# Altium integrated library altera.IntLib: 68 symbols (part 3 of 6)
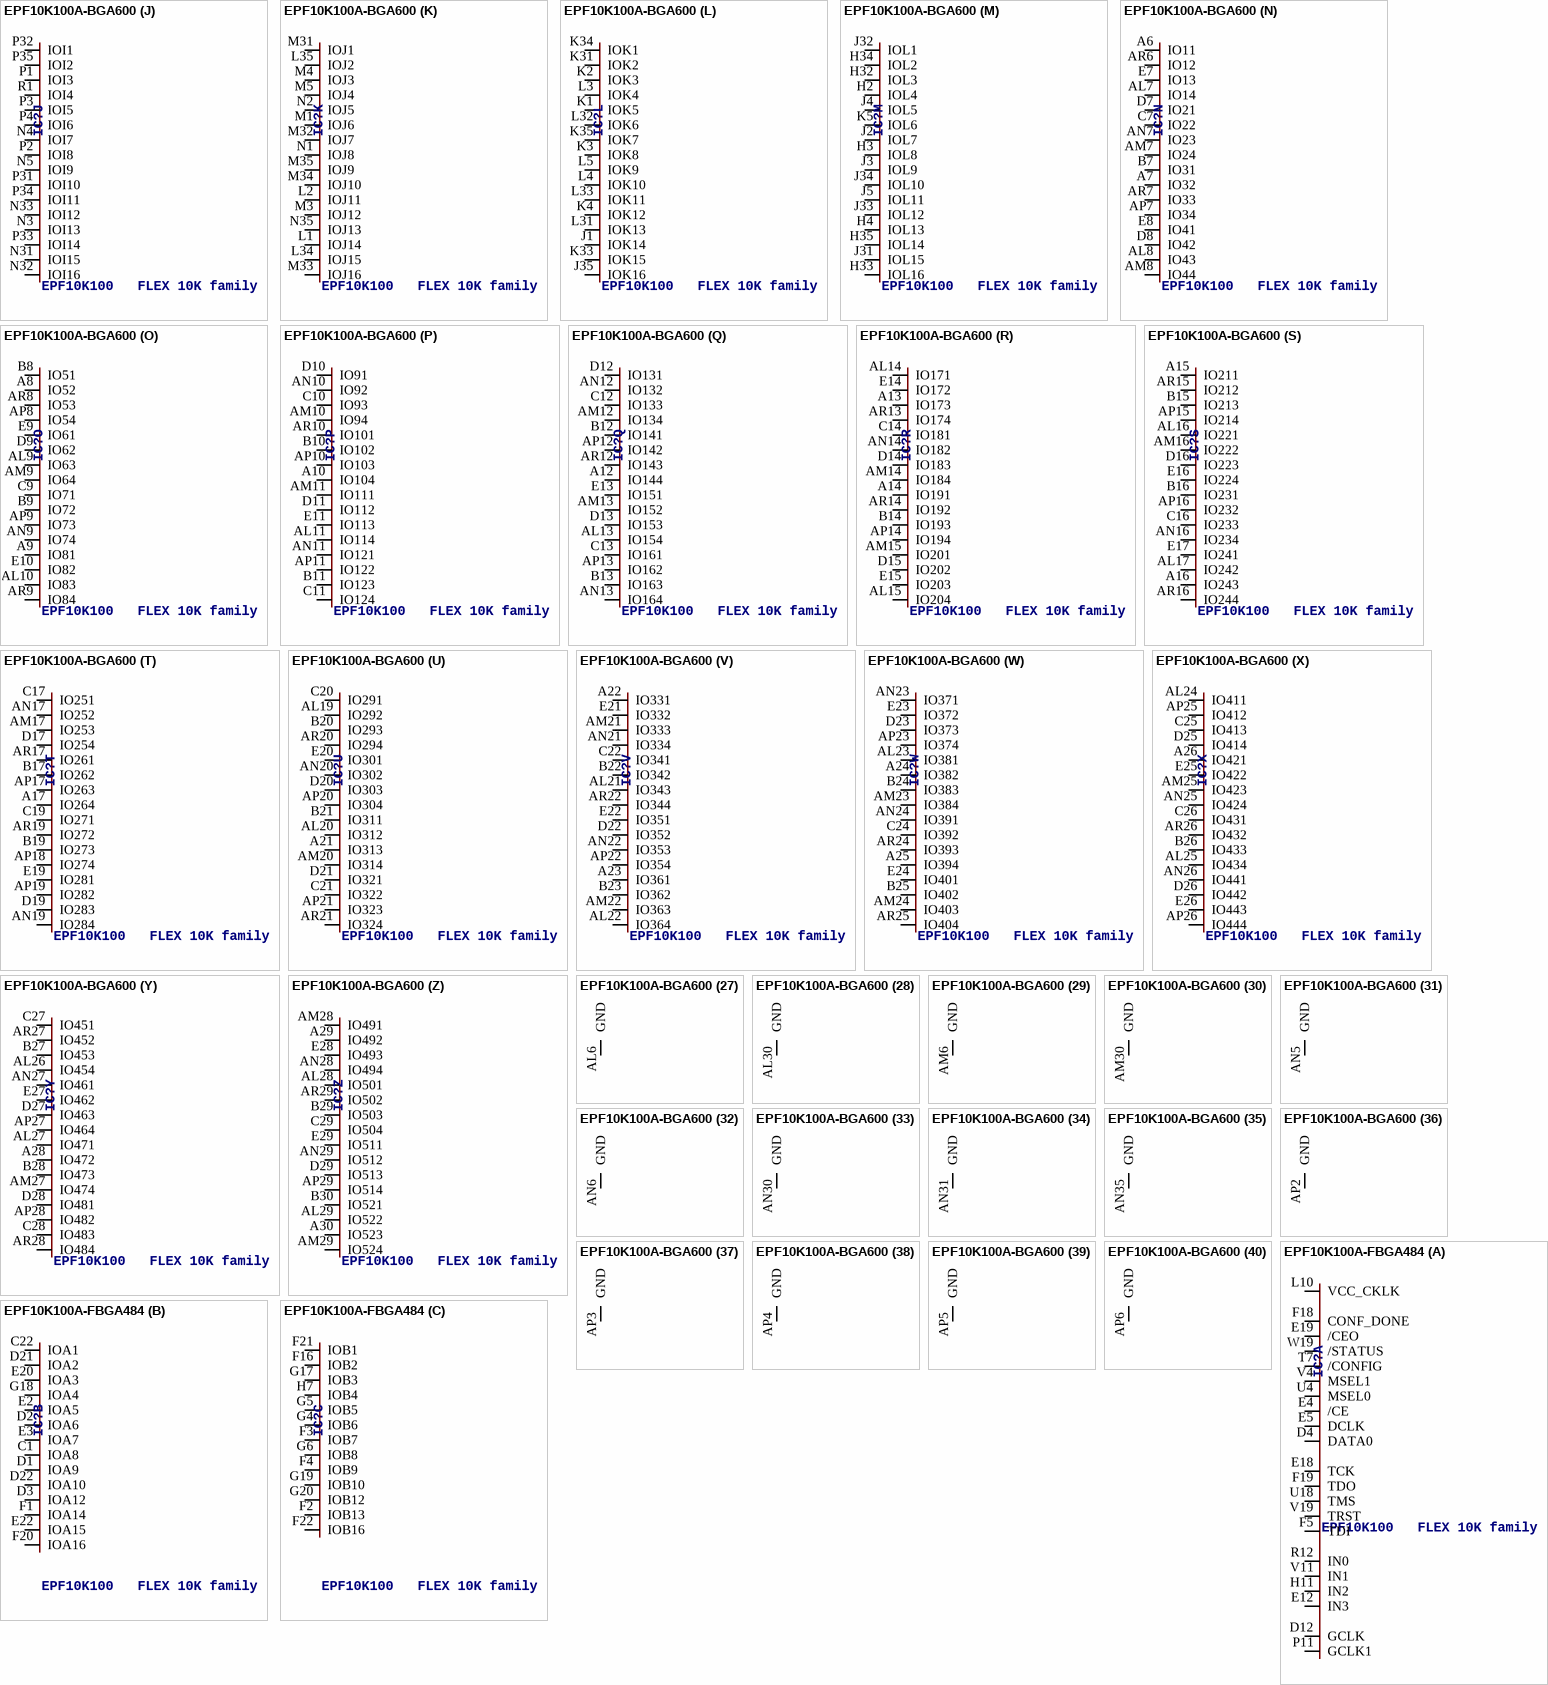
[diagram p59: symbols EPF10K100A-BGA600 to EPF10K100A-FBGA484]

## EPF10K100A-BGA600
designator IC?, comment EPF10K100   FLEX 10K family
MPN: EPF10K100ABC600-1; OC_FARNELL: unknown; OC_NEWARK: 51R8783
footprint BGA600
part A pins: AL18 GCLK, AL31 TCK, AM4 DATA0, AM18 IN3, AM32 CONF_DONE, AN1 TDI, AN2 /CE, AN18 IN2, AN34 TDO, AP1 DCLK, AP24 VCC_CKLK, AP35 /CEO, C1 MSEL1, C18 IN1, C34 TRST, C35 TMS, D4 /CONFIG, D18 IN0, D32 /STATUS, E18 GCLK1, F5 MSEL0
part B pins: AG2 IOA14, AG3 IOA13, AG4 IOA5, AH1 IOA9, AH2 IOA6, AH3 IOA8, AH4 IOA7, AJ1 IOA12, AJ31 IOA10, AK32 IOA11, AL32 IOA1, AL33 IOA15, AL34 IOA16, AM33 IOA2, AM34 IOA4, AM35 IOA3
part C pins: AE3 IOB4, AE5 IOB15, AF1 IOB5, AF2 IOB13, AF3 IOB6, AF4 IOB9, AF5 IOB7, AG1 IOB8, AH31 IOB2, AJ32 IOB11, AJ33 IOB12, AJ34 IOB14, AJ35 IOB3, AK33 IOB10, AK34 IOB16, AL35 IOB1
part D pins: AC5 IOC3, AD1 IOC10, AD2 IOC8, AD3 IOC4, AD4 IOC7, AD5 IOC12, AE1 IOC5, AE2 IOC6, AG31 IOC9, AG32 IOC13, AG33 IOC2, AG34 IOC15, AH32 IOC11, AH33 IOC1, AH34 IOC14, AH35 IOC16
part E pins: AB1 IOD15, AB2 IOD5, AB3 IOD13, AB4 IOD6, AB35 IOD16, AC1 IOD10, AC2 IOD12, AC3 IOD8, AC4 IOD7, AE31 IOD3, AE32 IOD4, AF31 IOD9, AF33 IOD11, AF34 IOD2, AF35 IOD14, AG35 IOD1
part F pins: AA1 IOE4, AA2 IOE9, AA3 IOE8, AA4 IOE7, AA5 IOE5, AA31 IOE11, AA32 IOE10, AA34 IOE1, AA35 IOE14, Y3 IOE13, Y4 IOE3, Y5 IOE12, Y31 IOE2, Y32 IOE16, Y33 IOE15, Y34 IOE6
part G pins: V4 IOF8, V5 IOF3, V31 IOF2, V33 IOF12, W1 IOF16, W2 IOF4, W3 IOF15, W4 IOF5, W5 IOF13, W31 IOF6, W32 IOF1, W33 IOF9, W34 IOF10, W35 IOF11, Y1 IOF14, Y35 IOF7
part H pins: T5 IOG13, T31 IOG16, U1 IOG8, U2 IOG9, U4 IOG3, U5 IOG7, U31 IOG12, U32 IOG1, U33 IOG14, U34 IOG2, U35 IOG15, V1 IOG6, V2 IOG5, V3 IOG4, V34 IOG10, V35 IOG11
part I pins: R2 IOH14, R3 IOH10, R4 IOH11, R5 IOH4, R31 IOH13, R32 IOH2, R33 IOH16, R34 IOH15, R35 IOH3, T1 IOH7, T2 IOH8, T3 IOH6, T4 IOH5, T32 IOH12, T33 IOH9, T34 IOH1
part J pins: N3 IOI13, N4 IOI7, N5 IOI9, N31 IOI15, N32 IOI16, N33 IOI12, P1 IOI3, P2 IOI8, P3 IOI5, P4 IOI6, P31 IOI10, P32 IOI1, P33 IOI14, P34 IOI11, P35 IOI2, R1 IOI4
part K pins: L1 IOJ14, L2 IOJ11, L34 IOJ15, L35 IOJ2, M1 IOJ6, M3 IOJ12, M4 IOJ3, M5 IOJ4, M31 IOJ1, M32 IOJ7, M33 IOJ16, M34 IOJ10, M35 IOJ9, N1 IOJ8, N2 IOJ5, N35 IOJ13
part L pins: J1 IOK14, J35 IOK16, K1 IOK5, K2 IOK3, K3 IOK8, K4 IOK12, K31 IOK2, K33 IOK15, K34 IOK1, K35 IOK7, L3 IOK4, L4 IOK10, L5 IOK9, L31 IOK13, L32 IOK6, L33 IOK11
part M pins: H2 IOL4, H3 IOL8, H4 IOL13, H32 IOL3, H33 IOL16, H34 IOL2, H35 IOL14, J2 IOL7, J3 IOL9, J4 IOL5, J5 IOL11, J31 IOL15, J32 IOL1, J33 IOL12, J34 IOL10, K5 IOL6
part N pins: A6 IO11, A7 IO32, AL7 IO14, AL8 IO43, AM7 IO24, AM8 IO44, AN7 IO23, AP7 IO34, AR6 IO12, AR7 IO33, B7 IO31, C7 IO22, D7 IO21, D8 IO42, E7 IO13, E8 IO41
part O pins: A8 IO52, A9 IO81, AL9 IO63, AL10 IO83, AM9 IO64, AN9 IO74, AP8 IO54, AP9 IO73, AR8 IO53, AR9 IO84, B8 IO51, B9 IO72, C9 IO71, D9 IO62, E9 IO61, E10 IO82
part P pins: A10 IO104, AL11 IO114, AM10 IO94, AM11 IO111, AN10 IO92, AN11 IO121, AP10 IO103, AP11 IO122, AR10 IO101, B10 IO102, B11 IO123, C10 IO93, C11 IO124, D10 IO91, D11 IO112, E11 IO113
part Q pins: A12 IO144, AL13 IO154, AM12 IO134, AM13 IO152, AN12 IO132, AN13 IO164, AP12 IO142, AP13 IO162, AR12 IO143, B12 IO141, B13 IO163, C12 IO133, C13 IO161, D12 IO131, D13 IO153, E13 IO151
part R pins: A13 IO173, A14 IO191, AL14 IO171, AL15 IO204, AM14 IO184, AM15 IO201, AN14 IO182, AP14 IO194, AR13 IO174, AR14 IO192, B14 IO193, C14 IO181, D14 IO183, D15 IO202, E14 IO172, E15 IO203
part S pins: A15 IO211, A16 IO243, AL16 IO221, AL17 IO242, AM16 IO222, AN16 IO234, AP15 IO214, AP16 IO232, AR15 IO212, AR16 IO244, B15 IO213, B16 IO231, C16 IO233, D16 IO223, E16 IO224, E17 IO241
part T pins: A17 IO264, AM17 IO253, AN17 IO252, AN19 IO284, AP17 IO263, AP18 IO274, AP19 IO282, AR17 IO261, AR19 IO272, B17 IO262, B19 IO273, C17 IO251, C19 IO271, D17 IO254, D19 IO283, E19 IO281
part U pins: A21 IO313, AL19 IO292, AL20 IO312, AM20 IO314, AN20 IO302, AP20 IO304, AP21 IO323, AR20 IO294, AR21 IO324, B20 IO293, B21 IO311, C20 IO291, C21 IO322, D20 IO303, D21 IO321, E20 IO301
part V pins: A22 IO331, A23 IO361, AL21 IO343, AL22 IO364, AM21 IO333, AM22 IO363, AN21 IO334, AN22 IO353, AP22 IO354, AR22 IO344, B22 IO342, B23 IO362, C22 IO341, D22 IO352, E21 IO332, E22 IO351
part W pins: A24 IO382, A25 IO394, AL23 IO381, AM23 IO384, AM24 IO403, AN23 IO371, AN24 IO391, AP23 IO374, AR24 IO393, AR25 IO404, B24 IO383, B25 IO402, C24 IO392, D23 IO373, E23 IO372, E24 IO401
part X pins: A26 IO421, AL24 IO411, AL25 IO434, AM25 IO423, AN25 IO424, AN26 IO441, AP25 IO412, AP26 IO444, AR26 IO432, B26 IO433, C25 IO413, C26 IO431, D25 IO414, D26 IO442, E25 IO422, E26 IO443
part Y pins: A28 IO472, AL26 IO454, AL27 IO471, AM27 IO474, AN27 IO461, AP27 IO464, AP28 IO482, AR27 IO452, AR28 IO484, B27 IO453, B28 IO473, C27 IO451, C28 IO483, D27 IO463, D28 IO481, E27 IO462
part Z pins: A29 IO492, A30 IO523, AL28 IO501, AL29 IO522, AM28 IO491, AM29 IO524, AN28 IO494, AN29 IO512, AP29 IO514, AR29 IO502, B29 IO503, B30 IO521, C29 IO504, D29 IO513, E28 IO493, E29 IO511
part 27 pins: AL6 GND (power)
part 28 pins: AL30 GND (power)
part 29 pins: AM6 GND (power)
part 30 pins: AM30 GND (power)
part 31 pins: AN5 GND (power)
part 32 pins: AN6 GND (power)
part 33 pins: AN30 GND (power)
part 34 pins: AN31 GND (power)
part 35 pins: AN35 GND (power)
part 36 pins: AP2 GND (power)
part 37 pins: AP3 GND (power)
part 38 pins: AP4 GND (power)
part 39 pins: AP5 GND (power)
part 40 pins: AP6 GND (power)
part 41 pins: AP30 GND (power)
part 42 pins: AP31 GND (power)
part 43 pins: AP32 GND (power)
part 44 pins: AP33 GND (power)
part 45 pins: AR1 GND (power)
part 46 pins: AR2 GND (power)
part 47 pins: AR3 GND (power)
part 48 pins: AR4 GND (power)
part 49 pins: AR5 GND (power)
part 50 pins: AR30 GND (power)
part 51 pins: AR31 GND (power)
part 52 pins: AR32 GND (power)
part 53 pins: AR33 GND (power)
part 54 pins: AR34 GND (power)
part 55 pins: AR35 GND (power)
part 56 pins: A1 GND (power)
part 57 pins: A2 GND (power)
part 58 pins: A3 GND (power)
part 59 pins: A4 GND (power)
part 60 pins: A5 GND (power)
part 61 pins: A18 GND (power)
part 62 pins: A31 GND (power)
part 63 pins: A32 GND (power)
part 64 pins: A33 GND (power)
part 65 pins: A34 GND (power)
part 66 pins: A35 GND (power)
part 67 pins: B2 GND (power)
part 68 pins: B3 GND (power)
part 69 pins: B4 GND (power)
part 70 pins: B5 GND (power)
part 71 pins: B6 GND (power)
part 72 pins: B31 GND (power)
part 73 pins: B32 GND (power)
part 74 pins: B33 GND (power)
part 75 pins: B34 GND (power)
part 76 pins: B35 GND (power)
part 77 pins: C5 GND (power)
part 78 pins: C6 GND (power)
part 79 pins: C30 GND (power)
part 80 pins: C31 GND (power)
part 81 pins: D6 GND (power)
part 82 pins: D30 GND (power)
part 83 pins: E6 GND (power)
part 84 pins: E30 GND (power)
part 85 pins: AB31 NC
part 86 pins: AB32 NC
part 87 pins: AB33 NC
part 88 pins: AB34 NC
part 89 pins: AC31 NC
part 90 pins: AC32 NC
part 91 pins: AC33 NC
part 92 pins: AC34 NC
part 93 pins: AC35 NC
part 94 pins: AD31 NC
part 95 pins: AD32 NC
part 96 pins: AD33 NC
part 97 pins: AD34 NC
part 98 pins: AE33 NC
part 99 pins: AE34 NC
part 100 pins: AE35 NC
part 101 pins: AH5 NC
part 102 pins: AJ2 NC
part 103 pins: AJ3 NC
part 104 pins: AJ4 NC
part 105 pins: AJ5 NC
part 106 pins: AK1 NC
part 107 pins: AK2 NC
part 108 pins: AK3 NC
part 109 pins: AK4 NC
part 110 pins: AK5 NC
part 111 pins: AL1 NC
part 112 pins: AL2 NC
part 113 pins: AL4 NC
part 114 pins: AM1 NC
part 115 pins: AM2 NC
part 116 pins: AM3 NC
part 117 pins: D1 NC
part 118 pins: D2 NC
part 119 pins: D3 NC
part 120 pins: D33 NC
part 121 pins: D34 NC
part 122 pins: D35 NC
part 123 pins: E1 NC
part 124 pins: E3 NC
part 125 pins: E4 NC
part 126 pins: E32 NC
part 127 pins: E33 NC
part 128 pins: E34 NC
part 129 pins: E35 NC
part 130 pins: F1 NC
part 131 pins: F2 NC
part 132 pins: F3 NC
part 133 pins: F4 NC
part 134 pins: F32 NC
part 135 pins: F33 NC
part 136 pins: F34 NC
part 137 pins: G1 NC
part 138 pins: G2 NC
part 139 pins: G3 NC
part 140 pins: G4 NC
part 141 pins: G5 NC
part 142 pins: G31 NC
part 143 pins: G32 NC
part 144 pins: G33 NC
part 145 pins: G34 NC
part 146 pins: G35 NC
part 147 pins: H5 NC
part 148 pins: H31 NC
part 149 pins: AA33 VCC (power)
part 150 pins: AB5 VCC (power)
part 151 pins: AD35 VCC (power)
part 152 pins: AE4 VCC (power)
part 153 pins: AF32 VCC (power)
part 154 pins: AG5 VCC (power)
part 155 pins: AK31 VCC (power)
part 156 pins: AK35 VCC (power)
part 157 pins: AL3 VCC (power)
part 158 pins: AR11 VCC (power)
part 159 pins: AR18 VCC (power)
part 160 pins: A11 VCC (power)
part 161 pins: A19 VCC (power)
part 162 pins: B1 VCC (power)
part 163 pins: B18 VCC (power)
part 164 pins: D24 VCC (power)
part 165 pins: E2 VCC (power)
part 166 pins: F31 VCC (power)
part 167 pins: F35 VCC (power)
part 168 pins: H1 VCC (power)
part 169 pins: K32 VCC (power)
part 170 pins: M2 VCC (power)
part 171 pins: N34 VCC (power)
part 172 pins: P5 VCC (power)
part 173 pins: T35 VCC (power)
part 174 pins: U3 VCC (power)
part 175 pins: V32 VCC (power)
part 176 pins: Y2 VCC (power)
part 177 pins: AL5 VCCIO (power)
part 178 pins: AL12 VCCIO (power)
part 179 pins: AM5 VCCIO (power)
part 180 pins: AM19 VCCIO (power)
part 181 pins: AM26 VCCIO (power)
part 182 pins: AM31 VCCIO (power)
part 183 pins: AN3 VCCIO (power)
part 184 pins: AN4 VCCIO (power)
part 185 pins: AN8 VCCIO (power)
part 186 pins: AN15 VCCIO (power)
part 187 pins: AN32 VCCIO (power)
part 188 pins: AN33 VCCIO (power)
part 189 pins: AP34 VCCIO (power)
part 190 pins: AR23 VCCIO (power)
part 191 pins: A20 VCCIO (power)
part 192 pins: A27 VCCIO (power)
part 193 pins: C2 VCCIO (power)
part 194 pins: C3 VCCIO (power)
part 195 pins: C4 VCCIO (power)
part 196 pins: C8 VCCIO (power)
part 197 pins: C15 VCCIO (power)
part 198 pins: C23 VCCIO (power)
part 199 pins: C32 VCCIO (power)
part 200 pins: C33 VCCIO (power)
part 201 pins: D5 VCCIO (power)
part 202 pins: D31 VCCIO (power)
part 203 pins: E5 VCCIO (power)
part 204 pins: E12 VCCIO (power)
part 205 pins: E31 VCCIO (power)

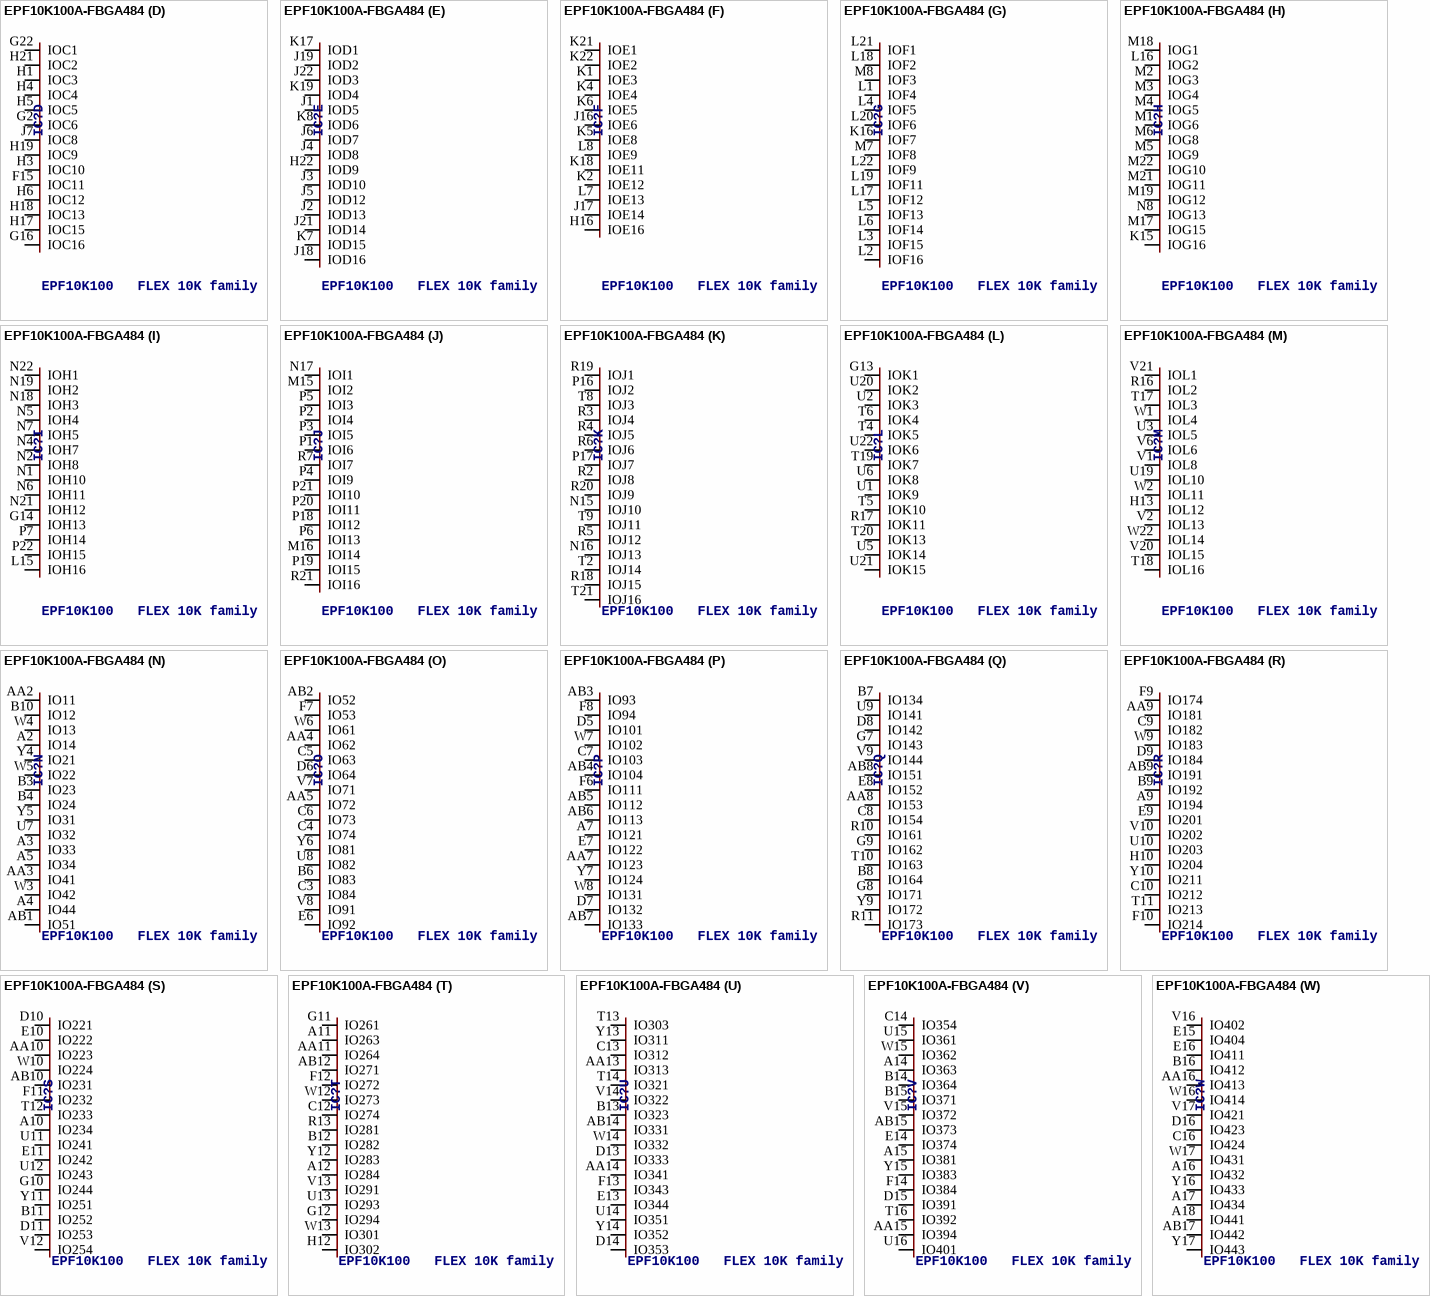
[diagram p20: symbol EPF10K100A-FBGA484]

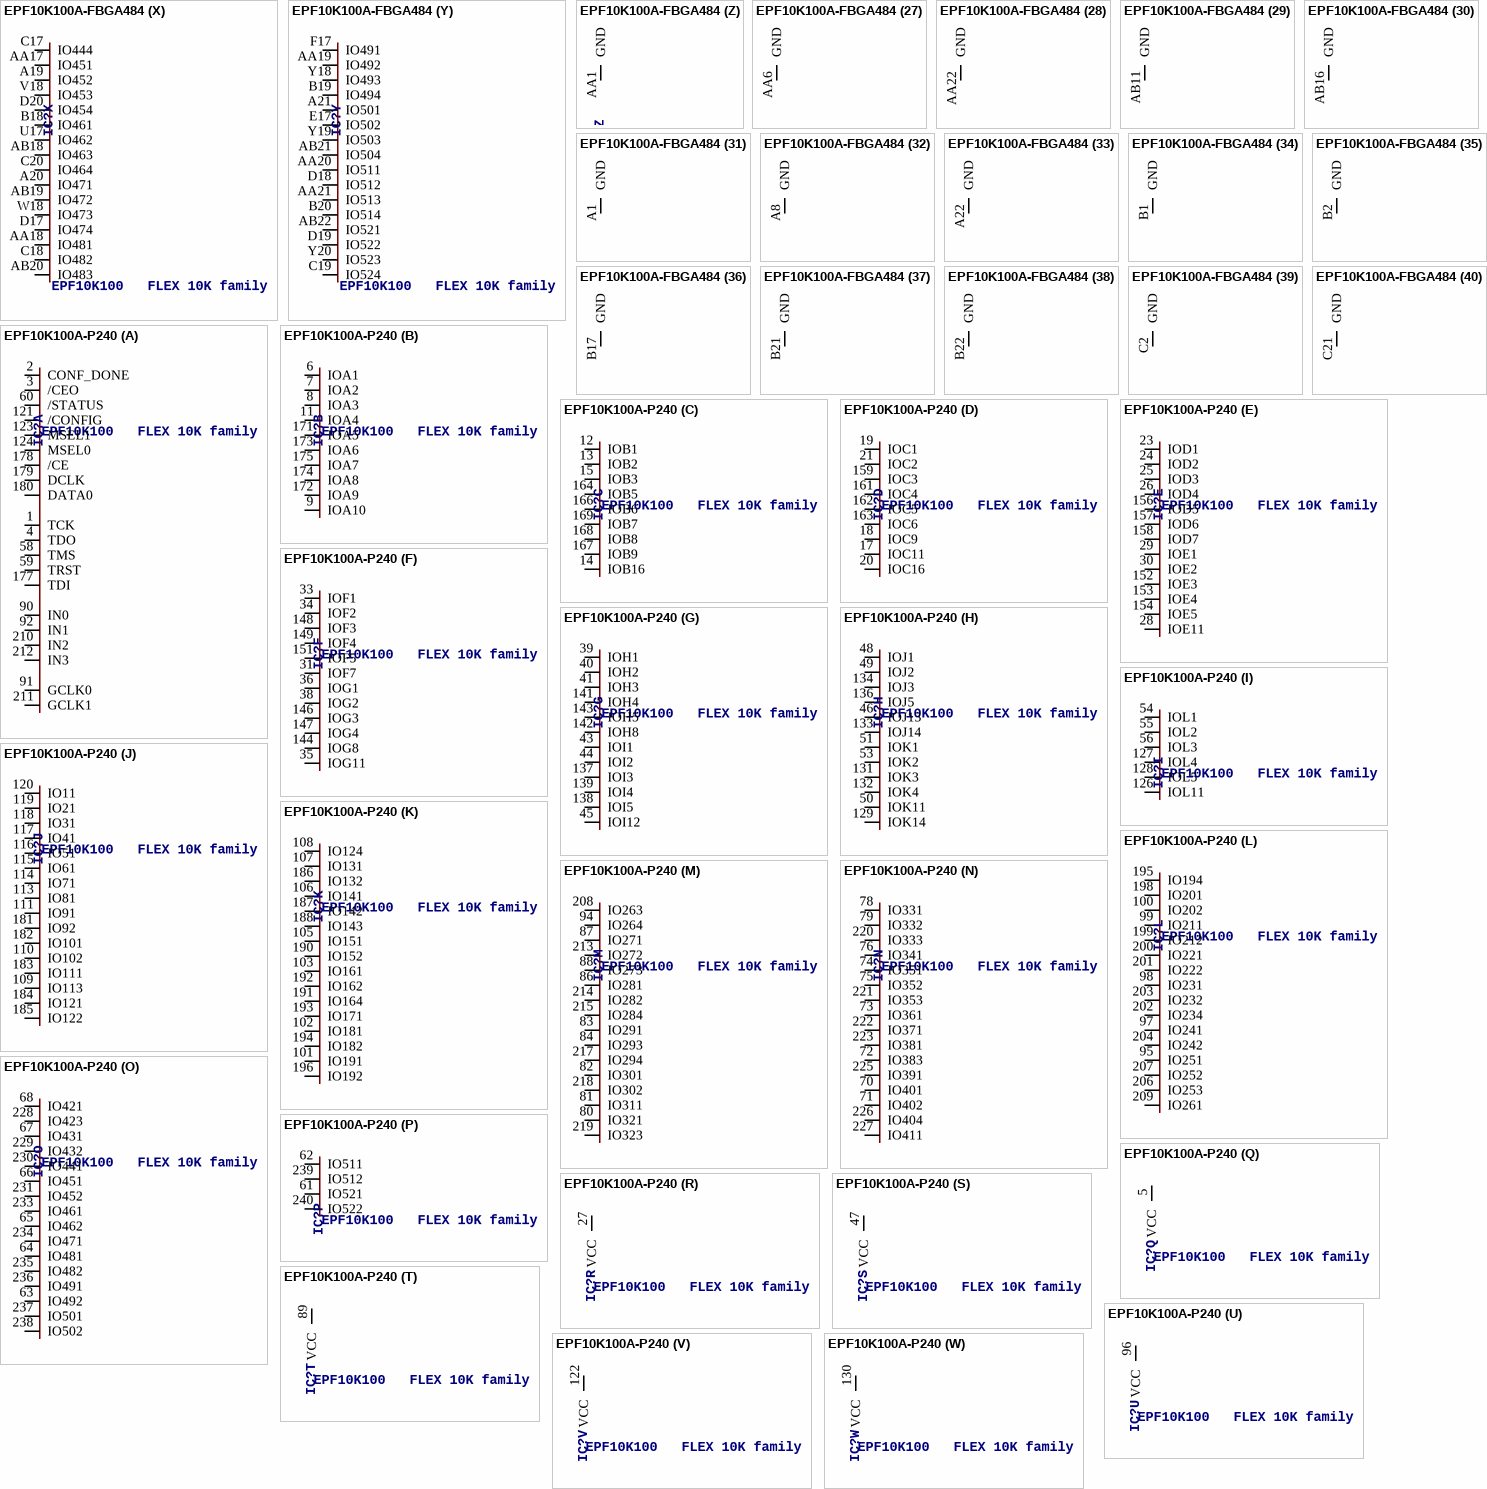
[diagram p21: symbols EPF10K100A-FBGA484 to EPF10K100A-P240]

## EPF10K100A-FBGA484
designator IC?, comment EPF10K100   FLEX 10K family
MPN: EPF10K100AFC484-1; OC_FARNELL: unknown; OC_NEWARK: 51R8791
footprint FBGA484
part A pins: D4 DATA0, D12 GCLK, E4 /CE, E5 DCLK, E12 IN3, E18 TCK, E19 /CEO, F5 TDI, F18 CONF_DONE, F19 TDO, H11 IN2, L10 VCC_CKLK, P11 GCLK1, R12 IN0, T7 /CONFIG, U4 MSEL0, U18 TMS, V4 MSEL1, V11 IN1, V19 TRST, W19 /STATUS
part B pins: C1 IOA8, C22 IOA1, D1 IOA9, D2 IOA6, D3 IOA12, D21 IOA2, D22 IOA10, E2 IOA5, E3 IOA7, E20 IOA3, E22 IOA15, F1 IOA14, F20 IOA16, G18 IOA4
part C pins: F2 IOB13, F3 IOB7, F4 IOB9, F16 IOB2, F21 IOB1, F22 IOB16, G4 IOB6, G5 IOB5, G6 IOB8, G17 IOB3, G19 IOB10, G20 IOB12, H7 IOB4
part D pins: F15 IOC11, G2 IOC6, G16 IOC16, G22 IOC1, H1 IOC3, H3 IOC10, H4 IOC4, H5 IOC5, H6 IOC12, H17 IOC15, H18 IOC13, H19 IOC9, H21 IOC2, J7 IOC8
part E pins: H22 IOD9, J1 IOD5, J2 IOD13, J3 IOD10, J4 IOD8, J5 IOD12, J6 IOD7, J18 IOD16, J19 IOD2, J21 IOD14, J22 IOD3, K7 IOD15, K8 IOD6, K17 IOD1, K19 IOD4
part F pins: H16 IOE16, J16 IOE6, J17 IOE14, K1 IOE3, K2 IOE12, K4 IOE4, K5 IOE8, K6 IOE5, K18 IOE11, K21 IOE1, K22 IOE2, L7 IOE13, L8 IOE9
part G pins: K16 IOF7, L1 IOF4, L2 IOF16, L3 IOF15, L4 IOF5, L5 IOF13, L6 IOF14, L17 IOF12, L18 IOF2, L19 IOF11, L20 IOF6, L21 IOF1, L22 IOF9, M7 IOF8, M8 IOF3
part H pins: K15 IOG16, L16 IOG2, M1 IOG6, M2 IOG3, M3 IOG4, M4 IOG5, M5 IOG9, M6 IOG8, M17 IOG15, M18 IOG1, M19 IOG12, M21 IOG11, M22 IOG10, N8 IOG13
part I pins: G14 IOH13, L15 IOH16, N1 IOH10, N2 IOH8, N4 IOH7, N5 IOH4, N6 IOH11, N7 IOH5, N18 IOH3, N19 IOH2, N21 IOH12, N22 IOH1, P7 IOH14, P22 IOH15
part J pins: M15 IOI2, M16 IOI14, N17 IOI1, P1 IOI6, P2 IOI4, P3 IOI5, P4 IOI9, P5 IOI3, P6 IOI13, P18 IOI12, P19 IOI15, P20 IOI11, P21 IOI10, R7 IOI7, R21 IOI16
part K pins: N15 IOJ10, N16 IOJ13, P16 IOJ2, P17 IOJ7, R2 IOJ8, R3 IOJ4, R4 IOJ5, R5 IOJ12, R6 IOJ6, R18 IOJ15, R19 IOJ1, R20 IOJ9, T2 IOJ14, T8 IOJ3, T9 IOJ11, T21 IOJ16
part L pins: G13 IOK1, R17 IOK11, T4 IOK5, T5 IOK10, T6 IOK4, T19 IOK7, T20 IOK13, U1 IOK9, U2 IOK3, U5 IOK14, U6 IOK8, U20 IOK2, U21 IOK15, U22 IOK6
part M pins: H13 IOL12, R16 IOL2, T17 IOL3, T18 IOL16, U3 IOL5, U19 IOL10, V1 IOL8, V2 IOL13, V6 IOL6, V20 IOL15, V21 IOL1, W1 IOL4, W2 IOL11, W22 IOL14
part N pins: A2 IO14, A3 IO33, A4 IO44, A5 IO34, AA2 IO11, AA3 IO41, AB1 IO51, B3 IO23, B4 IO24, B10 IO12, U7 IO32, W3 IO42, W4 IO13, W5 IO22, Y4 IO21, Y5 IO31
part O pins: AA4 IO62, AA5 IO72, AB2 IO52, B6 IO83, C3 IO84, C4 IO74, C5 IO63, C6 IO73, D6 IO64, E6 IO92, F7 IO53, U8 IO82, V7 IO71, V8 IO91, W6 IO61, Y6 IO81
part P pins: A7 IO121, AA7 IO123, AB3 IO93, AB4 IO104, AB5 IO112, AB6 IO113, AB7 IO133, C7 IO103, D5 IO101, D7 IO132, E7 IO122, F6 IO111, F8 IO94, W7 IO102, W8 IO131, Y7 IO124
part Q pins: AA8 IO153, AB8 IO151, B7 IO134, B8 IO164, C8 IO154, D8 IO142, E8 IO152, G7 IO143, G8 IO171, G9 IO162, R10 IO161, R11 IO173, T10 IO163, U9 IO141, V9 IO144, Y9 IO172
part R pins: A9 IO194, AA9 IO181, AB9 IO191, B9 IO192, C9 IO182, C10 IO212, D9 IO184, E9 IO201, F9 IO174, F10 IO214, H10 IO204, T11 IO213, U10 IO203, V10 IO202, W9 IO183, Y10 IO211
part S pins: A10 IO234, AA10 IO223, AB10 IO231, B11 IO252, D10 IO221, D11 IO253, E10 IO222, E11 IO242, F11 IO232, G10 IO244, T12 IO233, U11 IO241, U12 IO243, V12 IO254, W10 IO224, Y11 IO251
part T pins: A11 IO263, A12 IO284, AA11 IO264, AB12 IO271, B12 IO282, C12 IO274, F12 IO272, G11 IO261, G12 IO294, H12 IO302, R13 IO281, U13 IO293, V13 IO291, W12 IO273, W13 IO301, Y12 IO283
part U pins: AA13 IO313, AA14 IO341, AB14 IO331, B13 IO323, C13 IO312, D13 IO333, D14 IO353, E13 IO344, F13 IO343, T13 IO303, T14 IO321, U14 IO351, V14 IO322, W14 IO332, Y13 IO311, Y14 IO352
part V pins: A14 IO363, A15 IO381, AA15 IO394, AB15 IO373, B14 IO364, B15 IO371, C14 IO354, D15 IO391, E14 IO374, F14 IO384, T16 IO392, U15 IO361, U16 IO401, V15 IO372, W15 IO362, Y15 IO383
part W pins: A16 IO432, A17 IO434, A18 IO441, AA16 IO413, AB17 IO442, B16 IO412, C16 IO424, D16 IO423, E15 IO404, E16 IO411, V16 IO402, V17 IO421, W16 IO414, W17 IO431, Y16 IO433, Y17 IO443
part X pins: A19 IO452, A20 IO471, AA17 IO451, AA18 IO481, AB18 IO463, AB19 IO472, AB20 IO483, B18 IO461, C17 IO444, C18 IO482, C20 IO464, D17 IO474, D20 IO454, U17 IO462, V18 IO453, W18 IO473
part Y pins: A21 IO501, AA19 IO492, AA20 IO511, AA21 IO513, AB21 IO504, AB22 IO521, B19 IO494, B20 IO514, C19 IO524, D18 IO512, D19 IO522, E17 IO502, F17 IO491, Y18 IO493, Y19 IO503, Y20 IO523
part Z pins: AA1 GND (power)
part 27 pins: AA6 GND (power)
part 28 pins: AA22 GND (power)
part 29 pins: AB11 GND (power)
part 30 pins: AB16 GND (power)
part 31 pins: A1 GND (power)
part 32 pins: A8 GND (power)
part 33 pins: A22 GND (power)
part 34 pins: B1 GND (power)
part 35 pins: B2 GND (power)
part 36 pins: B17 GND (power)
part 37 pins: B21 GND (power)
part 38 pins: B22 GND (power)
part 39 pins: C2 GND (power)
part 40 pins: C21 GND (power)
part 41 pins: E21 GND (power)
part 42 pins: G3 GND (power)
part 43 pins: G21 GND (power)
part 44 pins: H2 GND (power)
part 45 pins: H8 GND (power)
part 46 pins: H15 GND (power)
part 47 pins: J9 GND (power)
part 48 pins: J14 GND (power)
part 49 pins: J20 GND (power)
part 50 pins: K3 GND (power)
part 51 pins: K10 GND (power)
part 52 pins: K12 GND (power)
part 53 pins: K13 GND (power)
part 54 pins: L11 GND (power)
part 55 pins: L12 GND (power)
part 56 pins: M11 GND (power)
part 57 pins: M12 GND (power)
part 58 pins: M20 GND (power)
part 59 pins: N10 GND (power)
part 60 pins: N13 GND (power)
part 61 pins: P9 GND (power)
part 62 pins: P14 GND (power)
part 63 pins: R8 GND (power)
part 64 pins: R15 GND (power)
part 65 pins: R22 GND (power)
part 66 pins: T1 GND (power)
part 67 pins: V3 GND (power)
part 68 pins: W11 GND (power)
part 69 pins: W20 GND (power)
part 70 pins: Y1 GND (power)
part 71 pins: Y2 GND (power)
part 72 pins: Y3 GND (power)
part 73 pins: Y21 GND (power)
part 74 pins: Y22 GND (power)
part 75 pins: AA12 VCC (power)
part 76 pins: C11 VCC (power)
part 77 pins: C15 VCC (power)
part 78 pins: H14 VCC (power)
part 79 pins: J8 VCC (power)
part 80 pins: J10 VCC (power)
part 81 pins: J12 VCC (power)
part 82 pins: J15 VCC (power)
part 83 pins: L9 VCC (power)
part 84 pins: L13 VCC (power)
part 85 pins: M10 VCC (power)
part 86 pins: M13 VCC (power)
part 87 pins: M14 VCC (power)
part 88 pins: N12 VCC (power)
part 89 pins: P8 VCC (power)
part 90 pins: P10 VCC (power)
part 91 pins: P12 VCC (power)
part 92 pins: P15 VCC (power)
part 93 pins: R14 VCC (power)
part 94 pins: V5 VCC (power)
part 95 pins: W21 VCC (power)
part 96 pins: Y8 VCC (power)
part 97 pins: AB13 VCCIO (power)
part 98 pins: A6 VCCIO (power)
part 99 pins: A13 VCCIO (power)
part 100 pins: B5 VCCIO (power)
part 101 pins: E1 VCCIO (power)
part 102 pins: G1 VCCIO (power)
part 103 pins: G15 VCCIO (power)
part 104 pins: H9 VCCIO (power)
part 105 pins: H20 VCCIO (power)
part 106 pins: J11 VCCIO (power)
part 107 pins: J13 VCCIO (power)
part 108 pins: K9 VCCIO (power)
part 109 pins: K11 VCCIO (power)
part 110 pins: K14 VCCIO (power)
part 111 pins: K20 VCCIO (power)
part 112 pins: L14 VCCIO (power)
part 113 pins: M9 VCCIO (power)
part 114 pins: N3 VCCIO (power)
part 115 pins: N9 VCCIO (power)
part 116 pins: N11 VCCIO (power)
part 117 pins: N14 VCCIO (power)
part 118 pins: N20 VCCIO (power)
part 119 pins: P13 VCCIO (power)
part 120 pins: R1 VCCIO (power)
part 121 pins: R9 VCCIO (power)
part 122 pins: T3 VCCIO (power)
part 123 pins: T15 VCCIO (power)
part 124 pins: T22 VCCIO (power)
part 125 pins: V22 VCCIO (power)

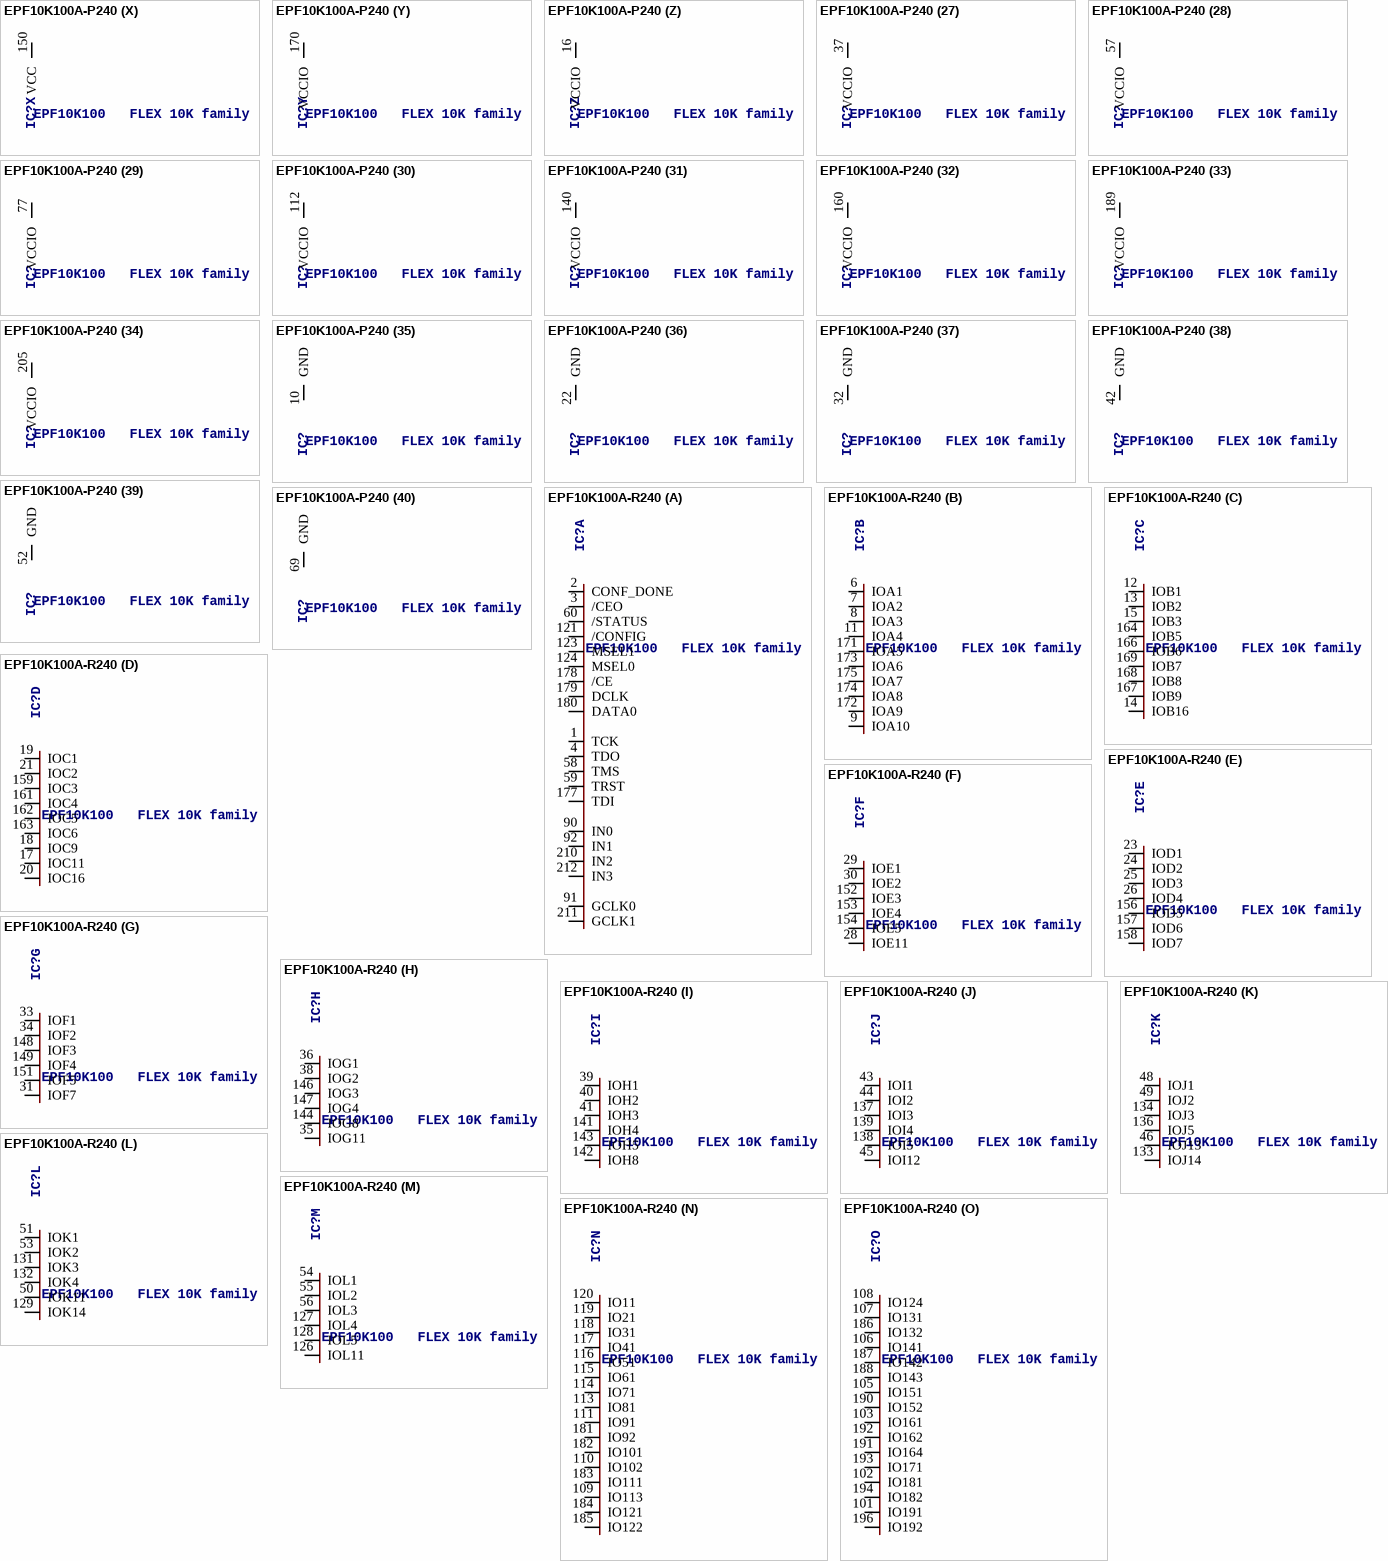
[diagram p22: symbols EPF10K100A-P240 to EPF10K100A-R240]

## EPF10K100A-P240
designator IC?, comment EPF10K100   FLEX 10K family
MPN: EPF10K100ARC240-1; OC_FARNELL: unknown; OC_NEWARK: 51R8795
footprint PQFP240
part A pins: 1 TCK, 2 CONF_DONE, 3 /CEO, 4 TDO, 58 TMS, 59 TRST, 60 /STATUS, 90 IN0, 91 GCLK0, 92 IN1, 121 /CONFIG, 123 MSEL1, 124 MSEL0, 177 TDI, 178 /CE, 179 DCLK, 180 DATA0, 210 IN2, 211 GCLK1, 212 IN3
part B pins: 6 IOA1, 7 IOA2, 8 IOA3, 9 IOA10, 11 IOA4, 171 IOA5, 172 IOA9, 173 IOA6, 174 IOA8, 175 IOA7
part C pins: 12 IOB1, 13 IOB2, 14 IOB16, 15 IOB3, 164 IOB5, 166 IOB6, 167 IOB9, 168 IOB8, 169 IOB7
part D pins: 17 IOC11, 18 IOC9, 19 IOC1, 20 IOC16, 21 IOC2, 159 IOC3, 161 IOC4, 162 IOC5, 163 IOC6
part E pins: 23 IOD1, 24 IOD2, 25 IOD3, 26 IOD4, 28 IOE11, 29 IOE1, 30 IOE2, 152 IOE3, 153 IOE4, 154 IOE5, 156 IOD5, 157 IOD6, 158 IOD7
part F pins: 31 IOF7, 33 IOF1, 34 IOF2, 35 IOG11, 36 IOG1, 38 IOG2, 144 IOG8, 146 IOG3, 147 IOG4, 148 IOF3, 149 IOF4, 151 IOF5
part G pins: 39 IOH1, 40 IOH2, 41 IOH3, 43 IOI1, 44 IOI2, 45 IOI12, 137 IOI3, 138 IOI5, 139 IOI4, 141 IOH4, 142 IOH8, 143 IOH5
part H pins: 46 IOJ13, 48 IOJ1, 49 IOJ2, 50 IOK11, 51 IOK1, 53 IOK2, 129 IOK14, 131 IOK3, 132 IOK4, 133 IOJ14, 134 IOJ3, 136 IOJ5
part I pins: 54 IOL1, 55 IOL2, 56 IOL3, 126 IOL11, 127 IOL4, 128 IOL5
part J pins: 109 IO113, 110 IO102, 111 IO91, 113 IO81, 114 IO71, 115 IO61, 116 IO51, 117 IO41, 118 IO31, 119 IO21, 120 IO11, 181 IO92, 182 IO101, 183 IO111, 184 IO121, 185 IO122
part K pins: 101 IO191, 102 IO181, 103 IO161, 105 IO151, 106 IO141, 107 IO131, 108 IO124, 186 IO132, 187 IO142, 188 IO143, 190 IO152, 191 IO164, 192 IO162, 193 IO171, 194 IO182, 196 IO192
part L pins: 95 IO251, 97 IO241, 98 IO231, 99 IO211, 100 IO202, 195 IO194, 198 IO201, 199 IO212, 200 IO221, 201 IO222, 202 IO234, 203 IO232, 204 IO242, 206 IO253, 207 IO252, 209 IO261
part M pins: 80 IO321, 81 IO311, 82 IO301, 83 IO291, 84 IO293, 86 IO281, 87 IO271, 88 IO273, 94 IO264, 208 IO263, 213 IO272, 214 IO282, 215 IO284, 217 IO294, 218 IO302, 219 IO323
part N pins: 70 IO401, 71 IO402, 72 IO383, 73 IO361, 74 IO351, 75 IO352, 76 IO341, 78 IO331, 79 IO332, 220 IO333, 221 IO353, 222 IO371, 223 IO381, 225 IO391, 226 IO404, 227 IO411
part O pins: 63 IO492, 64 IO481, 65 IO462, 66 IO451, 67 IO431, 68 IO421, 228 IO423, 229 IO432, 230 IO441, 231 IO452, 233 IO461, 234 IO471, 235 IO482, 236 IO491, 237 IO501, 238 IO502
part P pins: 61 IO521, 62 IO511, 239 IO512, 240 IO522
part Q pins: 5 VCC (power)
part R pins: 27 VCC (power)
part S pins: 47 VCC (power)
part T pins: 89 VCC (power)
part U pins: 96 VCC (power)
part V pins: 122 VCC (power)
part W pins: 130 VCC (power)
part X pins: 150 VCC (power)
part Y pins: 170 VCCIO (power)
part Z pins: 16 VCCIO (power)
part 27 pins: 37 VCCIO (power)
part 28 pins: 57 VCCIO (power)
part 29 pins: 77 VCCIO (power)
part 30 pins: 112 VCCIO (power)
part 31 pins: 140 VCCIO (power)
part 32 pins: 160 VCCIO (power)
part 33 pins: 189 VCCIO (power)
part 34 pins: 205 VCCIO (power)
part 35 pins: 10 GND (power)
part 36 pins: 22 GND (power)
part 37 pins: 32 GND (power)
part 38 pins: 42 GND (power)
part 39 pins: 52 GND (power)
part 40 pins: 69 GND (power)
part 41 pins: 85 GND (power)
part 42 pins: 93 GND (power)
part 43 pins: 104 GND (power)
part 44 pins: 125 GND (power)
part 45 pins: 135 GND (power)
part 46 pins: 145 GND (power)
part 47 pins: 155 GND (power)
part 48 pins: 165 GND (power)
part 49 pins: 176 GND (power)
part 50 pins: 197 GND (power)
part 51 pins: 216 GND (power)
part 52 pins: 232 GND (power)
part 53 pins: 224 VCC (power)

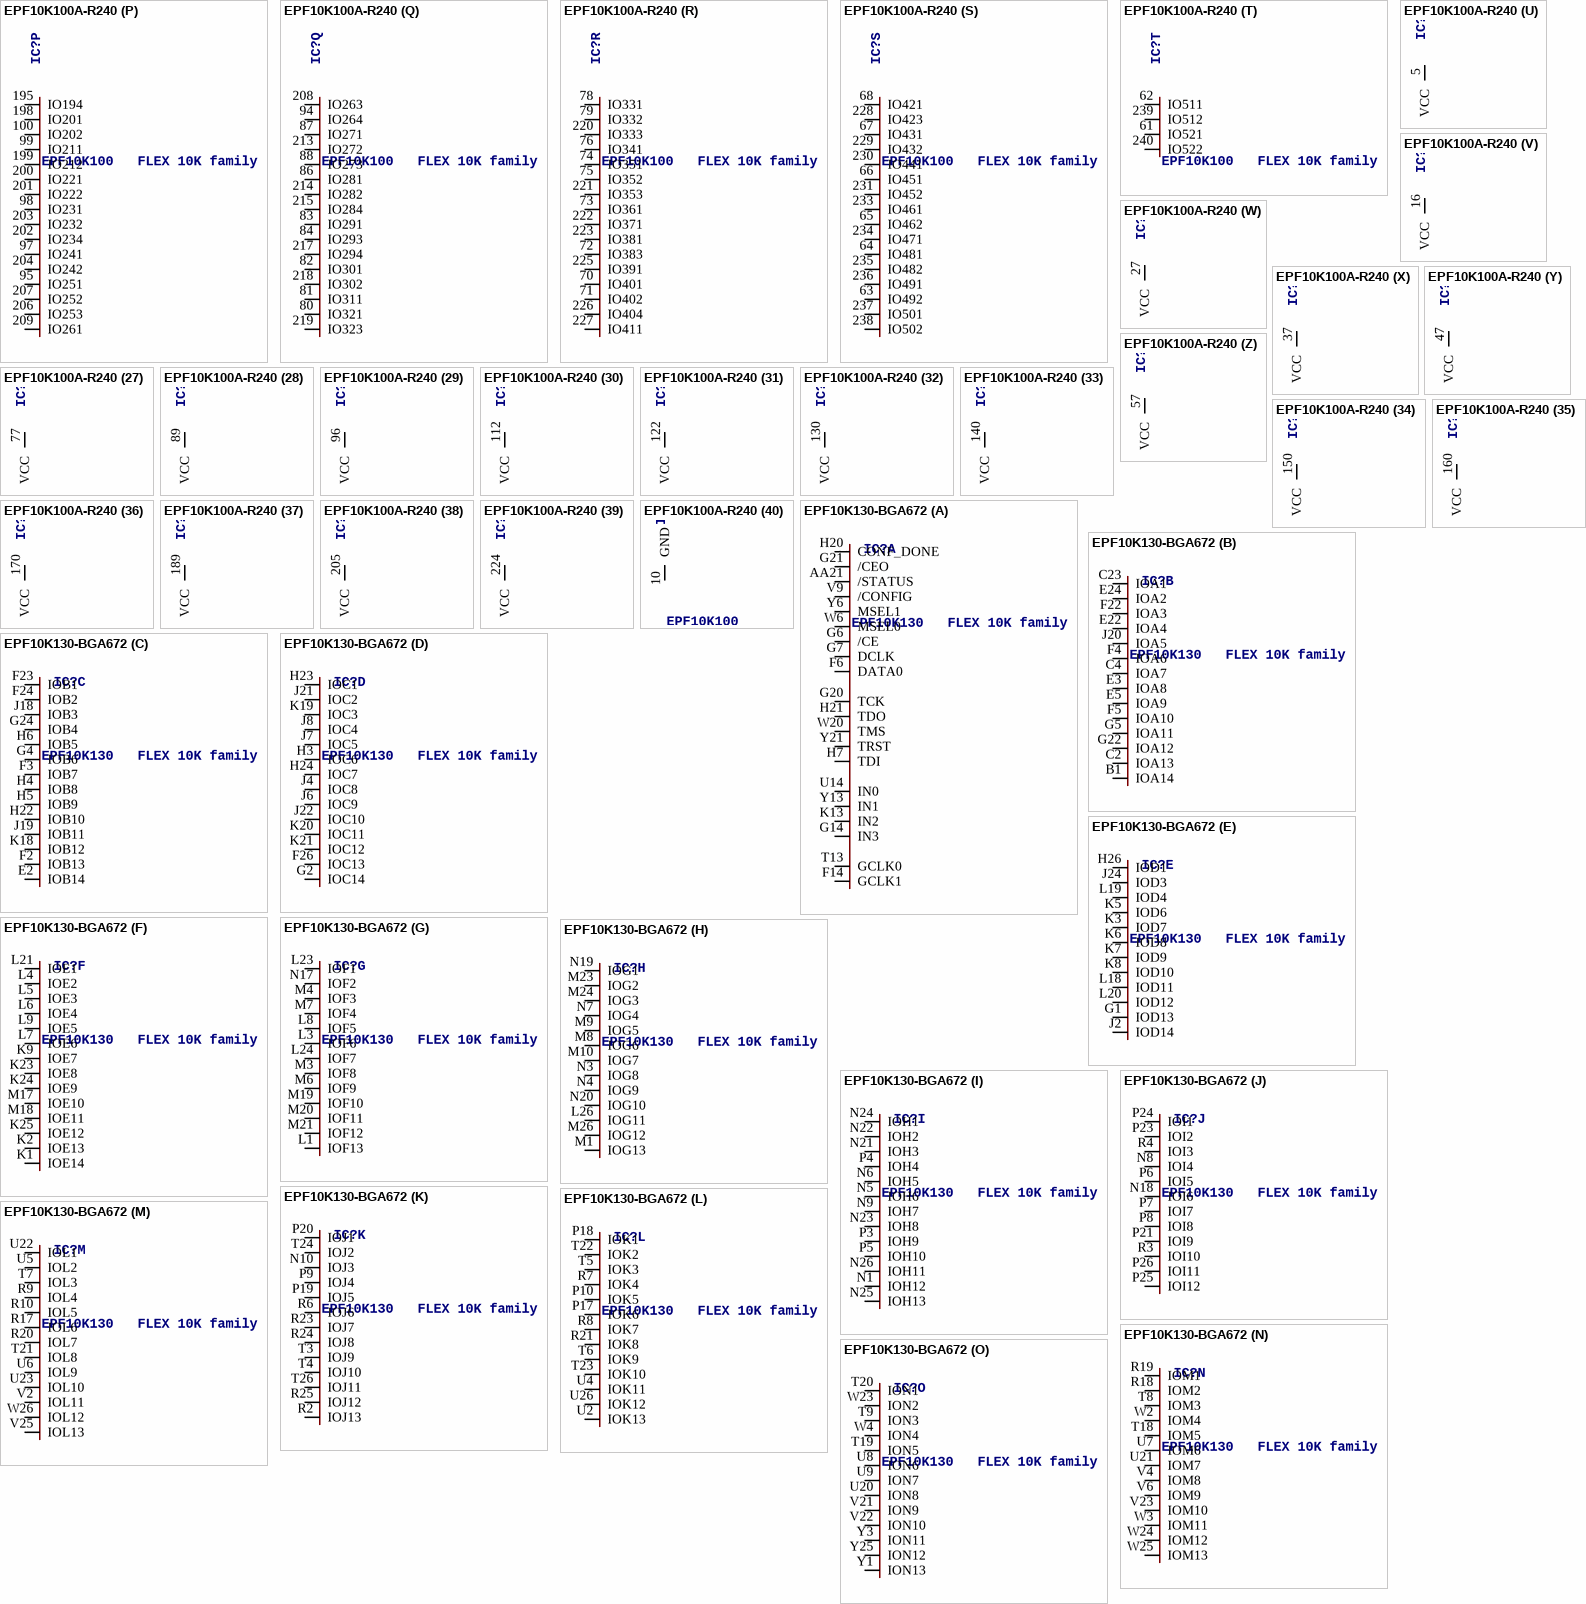
[diagram p23: symbols EPF10K100A-R240 to EPF10K130-BGA672]

## EPF10K100A-R240
designator IC?, comment EPF10K100   FLEX 10K family
MPN: EPF10K100ARC240-3N; OC_FARNELL: unknown; OC_NEWARK: 51R8800
footprint RQFP240
part A pins: 1 TCK, 2 CONF_DONE, 3 /CEO, 4 TDO, 58 TMS, 59 TRST, 60 /STATUS, 90 IN0, 91 GCLK0, 92 IN1, 121 /CONFIG, 123 MSEL1, 124 MSEL0, 177 TDI, 178 /CE, 179 DCLK, 180 DATA0, 210 IN2, 211 GCLK1, 212 IN3
part B pins: 6 IOA1, 7 IOA2, 8 IOA3, 9 IOA10, 11 IOA4, 171 IOA5, 172 IOA9, 173 IOA6, 174 IOA8, 175 IOA7
part C pins: 12 IOB1, 13 IOB2, 14 IOB16, 15 IOB3, 164 IOB5, 166 IOB6, 167 IOB9, 168 IOB8, 169 IOB7
part D pins: 17 IOC11, 18 IOC9, 19 IOC1, 20 IOC16, 21 IOC2, 159 IOC3, 161 IOC4, 162 IOC5, 163 IOC6
part E pins: 23 IOD1, 24 IOD2, 25 IOD3, 26 IOD4, 156 IOD5, 157 IOD6, 158 IOD7
part F pins: 28 IOE11, 29 IOE1, 30 IOE2, 152 IOE3, 153 IOE4, 154 IOE5
part G pins: 31 IOF7, 33 IOF1, 34 IOF2, 148 IOF3, 149 IOF4, 151 IOF5
part H pins: 35 IOG11, 36 IOG1, 38 IOG2, 144 IOG8, 146 IOG3, 147 IOG4
part I pins: 39 IOH1, 40 IOH2, 41 IOH3, 141 IOH4, 142 IOH8, 143 IOH5
part J pins: 43 IOI1, 44 IOI2, 45 IOI12, 137 IOI3, 138 IOI5, 139 IOI4
part K pins: 46 IOJ13, 48 IOJ1, 49 IOJ2, 133 IOJ14, 134 IOJ3, 136 IOJ5
part L pins: 50 IOK11, 51 IOK1, 53 IOK2, 129 IOK14, 131 IOK3, 132 IOK4
part M pins: 54 IOL1, 55 IOL2, 56 IOL3, 126 IOL11, 127 IOL4, 128 IOL5
part N pins: 109 IO113, 110 IO102, 111 IO91, 113 IO81, 114 IO71, 115 IO61, 116 IO51, 117 IO41, 118 IO31, 119 IO21, 120 IO11, 181 IO92, 182 IO101, 183 IO111, 184 IO121, 185 IO122
part O pins: 101 IO191, 102 IO181, 103 IO161, 105 IO151, 106 IO141, 107 IO131, 108 IO124, 186 IO132, 187 IO142, 188 IO143, 190 IO152, 191 IO164, 192 IO162, 193 IO171, 194 IO182, 196 IO192
part P pins: 95 IO251, 97 IO241, 98 IO231, 99 IO211, 100 IO202, 195 IO194, 198 IO201, 199 IO212, 200 IO221, 201 IO222, 202 IO234, 203 IO232, 204 IO242, 206 IO253, 207 IO252, 209 IO261
part Q pins: 80 IO321, 81 IO311, 82 IO301, 83 IO291, 84 IO293, 86 IO281, 87 IO271, 88 IO273, 94 IO264, 208 IO263, 213 IO272, 214 IO282, 215 IO284, 217 IO294, 218 IO302, 219 IO323
part R pins: 70 IO401, 71 IO402, 72 IO383, 73 IO361, 74 IO351, 75 IO352, 76 IO341, 78 IO331, 79 IO332, 220 IO333, 221 IO353, 222 IO371, 223 IO381, 225 IO391, 226 IO404, 227 IO411
part S pins: 63 IO492, 64 IO481, 65 IO462, 66 IO451, 67 IO431, 68 IO421, 228 IO423, 229 IO432, 230 IO441, 231 IO452, 233 IO461, 234 IO471, 235 IO482, 236 IO491, 237 IO501, 238 IO502
part T pins: 61 IO521, 62 IO511, 239 IO512, 240 IO522
part U pins: 5 VCC (power)
part V pins: 16 VCC (power)
part W pins: 27 VCC (power)
part X pins: 37 VCC (power)
part Y pins: 47 VCC (power)
part Z pins: 57 VCC (power)
part 27 pins: 77 VCC (power)
part 28 pins: 89 VCC (power)
part 29 pins: 96 VCC (power)
part 30 pins: 112 VCC (power)
part 31 pins: 122 VCC (power)
part 32 pins: 130 VCC (power)
part 33 pins: 140 VCC (power)
part 34 pins: 150 VCC (power)
part 35 pins: 160 VCC (power)
part 36 pins: 170 VCC (power)
part 37 pins: 189 VCC (power)
part 38 pins: 205 VCC (power)
part 39 pins: 224 VCC (power)
part 40 pins: 10 GND (power)
part 41 pins: 22 GND (power)
part 42 pins: 32 GND (power)
part 43 pins: 42 GND (power)
part 44 pins: 52 GND (power)
part 45 pins: 69 GND (power)
part 46 pins: 85 GND (power)
part 47 pins: 93 GND (power)
part 48 pins: 104 GND (power)
part 49 pins: 125 GND (power)
part 50 pins: 135 GND (power)
part 51 pins: 145 GND (power)
part 52 pins: 155 GND (power)
part 53 pins: 165 GND (power)
part 54 pins: 176 GND (power)
part 55 pins: 197 GND (power)
part 56 pins: 216 GND (power)
part 57 pins: 232 GND (power)

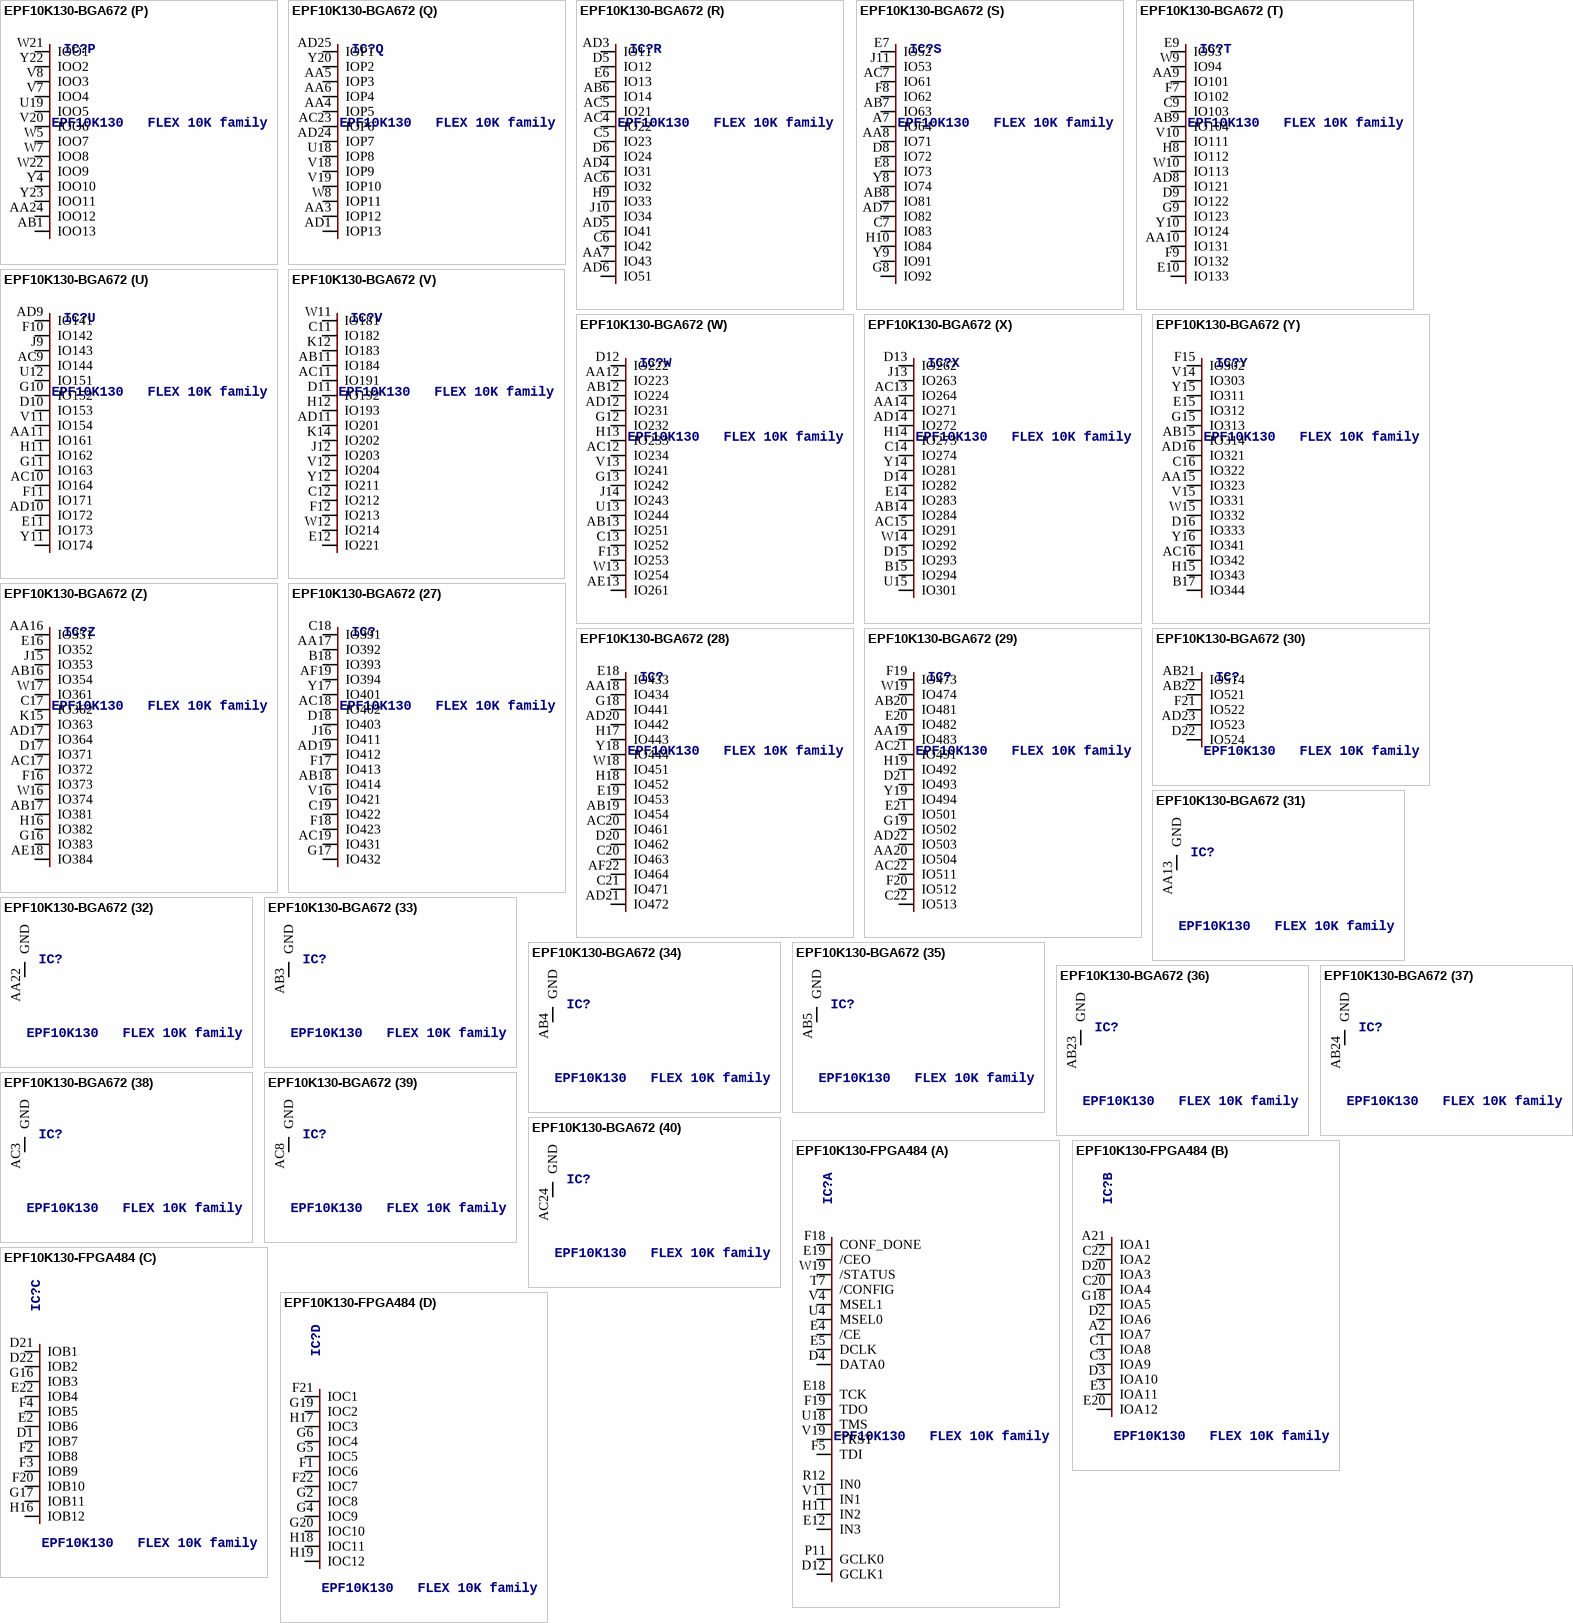
[diagram p24: symbols EPF10K130-BGA672 to EPF10K130-FPGA484]

## EPF10K130-BGA672
designator IC?, comment EPF10K130   FLEX 10K family
MPN: EPF10K130EFC672-1; OC_FARNELL: unknown; OC_NEWARK: 51R8863
footprint BGA672
part A pins: AA21 /STATUS, F6 DATA0, F14 GCLK1, G6 /CE, G7 DCLK, G14 IN3, G20 TCK, G21 /CEO, H7 TDI, H20 CONF_DONE, H21 TDO, K13 IN2, T13 GCLK0, U14 IN0, V9 /CONFIG, W6 MSEL0, W20 TMS, Y6 MSEL1, Y13 IN1, Y21 TRST
part B pins: B1 IOA14, C2 IOA13, C4 IOA7, C23 IOA1, E3 IOA8, E5 IOA9, E22 IOA4, E24 IOA2, F4 IOA6, F5 IOA10, F22 IOA3, G5 IOA11, G22 IOA12, J20 IOA5
part C pins: E2 IOB14, F2 IOB13, F3 IOB7, F23 IOB1, F24 IOB2, G4 IOB6, G24 IOB4, H4 IOB8, H5 IOB9, H6 IOB5, H22 IOB10, J18 IOB3, J19 IOB11, K18 IOB12
part D pins: F26 IOC13, G2 IOC14, H3 IOC6, H23 IOC1, H24 IOC7, J4 IOC8, J6 IOC9, J7 IOC5, J8 IOC4, J21 IOC2, J22 IOC10, K19 IOC3, K20 IOC11, K21 IOC12
part E pins: G1 IOD13, H26 IOD1, J2 IOD14, J24 IOD3, K3 IOD7, K5 IOD6, K6 IOD8, K7 IOD9, K8 IOD10, L18 IOD11, L19 IOD4, L20 IOD12
part F pins: K1 IOE14, K2 IOE13, K9 IOE7, K23 IOE8, K24 IOE9, K25 IOE12, L4 IOE2, L5 IOE3, L6 IOE4, L7 IOE6, L9 IOE5, L21 IOE1, M17 IOE10, M18 IOE11
part G pins: L1 IOF13, L3 IOF6, L8 IOF5, L23 IOF1, L24 IOF7, M3 IOF8, M4 IOF3, M6 IOF9, M7 IOF4, M19 IOF10, M20 IOF11, M21 IOF12, N17 IOF2
part H pins: L26 IOG11, M1 IOG13, M8 IOG6, M9 IOG5, M10 IOG7, M23 IOG2, M24 IOG3, M26 IOG12, N3 IOG8, N4 IOG9, N7 IOG4, N19 IOG1, N20 IOG10
part I pins: N1 IOH12, N5 IOH6, N6 IOH5, N9 IOH7, N21 IOH3, N22 IOH2, N23 IOH8, N24 IOH1, N25 IOH13, N26 IOH11, P3 IOH9, P4 IOH4, P5 IOH10
part J pins: N8 IOI4, N18 IOI6, P6 IOI5, P7 IOI7, P8 IOI8, P21 IOI9, P23 IOI2, P24 IOI1, P25 IOI12, P26 IOI11, R3 IOI10, R4 IOI3
part K pins: N10 IOJ3, P9 IOJ4, P19 IOJ5, P20 IOJ1, R2 IOJ13, R6 IOJ6, R23 IOJ7, R24 IOJ8, R25 IOJ12, T3 IOJ9, T4 IOJ10, T24 IOJ2, T26 IOJ11
part L pins: P10 IOK5, P17 IOK6, P18 IOK1, R7 IOK4, R8 IOK7, R21 IOK8, T5 IOK3, T6 IOK9, T22 IOK2, T23 IOK10, U2 IOK13, U4 IOK11, U26 IOK12
part M pins: R9 IOL4, R10 IOL5, R17 IOL6, R20 IOL7, T7 IOL3, T21 IOL8, U5 IOL2, U6 IOL9, U22 IOL1, U23 IOL10, V2 IOL11, V25 IOL13, W26 IOL12
part N pins: R18 IOM2, R19 IOM1, T8 IOM3, T18 IOM5, U7 IOM6, U21 IOM7, V4 IOM8, V6 IOM9, V23 IOM10, W2 IOM4, W3 IOM11, W24 IOM12, W25 IOM13
part O pins: T9 ION3, T19 ION5, T20 ION1, U8 ION6, U9 ION7, U20 ION8, V21 ION9, V22 ION10, W4 ION4, W23 ION2, Y1 ION13, Y3 ION11, Y25 ION12
part P pins: AA24 IOO12, AB1 IOO13, U19 IOO5, V7 IOO4, V8 IOO3, V20 IOO6, W5 IOO7, W7 IOO8, W21 IOO1, W22 IOO9, Y4 IOO10, Y22 IOO2, Y23 IOO11
part Q pins: AA3 IOP12, AA4 IOP5, AA5 IOP3, AA6 IOP4, AC23 IOP6, AD1 IOP13, AD24 IOP7, AD25 IOP1, U18 IOP8, V18 IOP9, V19 IOP10, W8 IOP11, Y20 IOP2
part R pins: AA7 IO43, AB6 IO14, AC4 IO22, AC5 IO21, AC6 IO32, AD3 IO11, AD4 IO31, AD5 IO41, AD6 IO51, C5 IO23, C6 IO42, D5 IO12, D6 IO24, E6 IO13, H9 IO33, J10 IO34
part S pins: A7 IO64, AA8 IO71, AB7 IO63, AB8 IO81, AC7 IO61, AD7 IO82, C7 IO83, D8 IO72, E7 IO52, E8 IO73, F8 IO62, G8 IO92, H10 IO84, J11 IO53, Y8 IO74, Y9 IO91
part T pins: AA9 IO101, AA10 IO131, AB9 IO104, AD8 IO121, C9 IO103, D9 IO122, E9 IO93, E10 IO133, F7 IO102, F9 IO132, G9 IO123, H8 IO112, V10 IO111, W9 IO94, W10 IO113, Y10 IO124
part U pins: AA11 IO161, AC9 IO144, AC10 IO164, AD9 IO141, AD10 IO172, D10 IO153, E11 IO173, F10 IO142, F11 IO171, G10 IO152, G11 IO163, H11 IO162, J9 IO143, U12 IO151, V11 IO154, Y11 IO174
part V pins: AB11 IO184, AC11 IO191, AD11 IO201, C11 IO182, C12 IO212, D11 IO192, E12 IO221, F12 IO213, H12 IO193, J12 IO203, K12 IO183, K14 IO202, V12 IO204, W11 IO181, W12 IO214, Y12 IO211
part W pins: AA12 IO223, AB12 IO224, AB13 IO251, AC12 IO234, AD12 IO231, AE13 IO261, C13 IO252, D12 IO222, F13 IO253, G12 IO232, G13 IO242, H13 IO233, J14 IO243, U13 IO244, V13 IO241, W13 IO254
part X pins: AA14 IO271, AB14 IO284, AC13 IO264, AC15 IO291, AD14 IO272, B15 IO294, C14 IO274, D13 IO262, D14 IO282, D15 IO293, E14 IO283, H14 IO273, J13 IO263, U15 IO301, W14 IO292, Y14 IO281
part Y pins: AA15 IO323, AB15 IO314, AC16 IO342, AD16 IO321, B17 IO344, C16 IO322, D16 IO333, E15 IO312, F15 IO302, G15 IO313, H15 IO343, V14 IO303, V15 IO331, W15 IO332, Y15 IO311, Y16 IO341
part Z pins: AA16 IO351, AB16 IO354, AB17 IO381, AC17 IO372, AD17 IO364, AE18 IO384, C17 IO362, D17 IO371, E16 IO352, F16 IO373, G16 IO383, H16 IO382, J15 IO353, K15 IO363, W16 IO374, W17 IO361
part 27 pins: AA17 IO392, AB18 IO414, AC18 IO402, AC19 IO431, AD19 IO412, AF19 IO394, B18 IO393, C18 IO391, C19 IO422, D18 IO403, F17 IO413, F18 IO423, G17 IO432, J16 IO411, V16 IO421, Y17 IO401
part 28 pins: AA18 IO434, AB19 IO454, AC20 IO461, AD20 IO442, AD21 IO472, AF22 IO464, C20 IO463, C21 IO471, D20 IO462, E18 IO433, E19 IO453, G18 IO441, H17 IO443, H18 IO452, W18 IO451, Y18 IO444
part 29 pins: AA19 IO483, AA20 IO504, AB20 IO481, AC21 IO491, AC22 IO511, AD22 IO503, C22 IO513, D21 IO493, E20 IO482, E21 IO501, F19 IO473, F20 IO512, G19 IO502, H19 IO492, W19 IO474, Y19 IO494
part 30 pins: AB21 IO514, AB22 IO521, AD23 IO523, D22 IO524, F21 IO522
part 31 pins: AA13 GND (power)
part 32 pins: AA22 GND (power)
part 33 pins: AB3 GND (power)
part 34 pins: AB4 GND (power)
part 35 pins: AB5 GND (power)
part 36 pins: AB23 GND (power)
part 37 pins: AB24 GND (power)
part 38 pins: AC3 GND (power)
part 39 pins: AC8 GND (power)
part 40 pins: AC24 GND (power)
part 41 pins: AD13 GND (power)
part 42 pins: AD18 GND (power)
part 43 pins: AE2 GND (power)
part 44 pins: AE25 GND (power)
part 45 pins: AF2 GND (power)
part 46 pins: AF25 GND (power)
part 47 pins: A2 GND (power)
part 48 pins: A25 GND (power)
part 49 pins: B2 GND (power)
part 50 pins: B25 GND (power)
part 51 pins: C3 GND (power)
part 52 pins: C10 GND (power)
part 53 pins: C24 GND (power)
part 54 pins: D3 GND (power)
part 55 pins: D4 GND (power)
part 56 pins: D19 GND (power)
part 57 pins: D23 GND (power)
part 58 pins: D24 GND (power)
part 59 pins: E4 GND (power)
part 60 pins: E23 GND (power)
part 61 pins: G23 GND (power)
part 62 pins: J5 GND (power)
part 63 pins: J23 GND (power)
part 64 pins: K4 GND (power)
part 65 pins: K10 GND (power)
part 66 pins: K17 GND (power)
part 67 pins: L11 GND (power)
part 68 pins: L16 GND (power)
part 69 pins: L22 GND (power)
part 70 pins: M5 GND (power)
part 71 pins: M12 GND (power)
part 72 pins: M14 GND (power)
part 73 pins: M15 GND (power)
part 74 pins: N13 GND (power)
part 75 pins: N14 GND (power)
part 76 pins: P13 GND (power)
part 77 pins: P14 GND (power)
part 78 pins: P22 GND (power)
part 79 pins: R12 GND (power)
part 80 pins: R15 GND (power)
part 81 pins: T11 GND (power)
part 82 pins: T16 GND (power)
part 83 pins: U10 GND (power)
part 84 pins: U17 GND (power)
part 85 pins: U24 GND (power)
part 86 pins: V3 GND (power)
part 87 pins: Y5 GND (power)
part 88 pins: AA23 VCC (power)
part 89 pins: AB10 VCC (power)
part 90 pins: AC14 VCC (power)
part 91 pins: E13 VCC (power)
part 92 pins: E17 VCC (power)
part 93 pins: H2 VCC (power)
part 94 pins: H25 VCC (power)
part 95 pins: K16 VCC (power)
part 96 pins: L10 VCC (power)
part 97 pins: L12 VCC (power)
part 98 pins: L14 VCC (power)
part 99 pins: L17 VCC (power)
part 100 pins: M2 VCC (power)
part 101 pins: M25 VCC (power)
part 102 pins: N11 VCC (power)
part 103 pins: N12 VCC (power)
part 104 pins: N15 VCC (power)
part 105 pins: P12 VCC (power)
part 106 pins: P15 VCC (power)
part 107 pins: P16 VCC (power)
part 108 pins: R14 VCC (power)
part 109 pins: T2 VCC (power)
part 110 pins: T10 VCC (power)
part 111 pins: T12 VCC (power)
part 112 pins: T14 VCC (power)
part 113 pins: T17 VCC (power)
part 114 pins: T25 VCC (power)
part 115 pins: U16 VCC (power)
part 116 pins: Y7 VCC (power)
part 117 pins: AA26 VCCIO (power)
part 118 pins: AD15 VCCIO (power)
part 119 pins: C8 VCCIO (power)
part 120 pins: C15 VCCIO (power)
part 121 pins: D7 VCCIO (power)
part 122 pins: G3 VCCIO (power)
part 123 pins: J3 VCCIO (power)
part 124 pins: J17 VCCIO (power)
part 125 pins: K11 VCCIO (power)
part 126 pins: K22 VCCIO (power)
part 127 pins: L13 VCCIO (power)
part 128 pins: L15 VCCIO (power)
part 129 pins: M11 VCCIO (power)
part 130 pins: M13 VCCIO (power)
part 131 pins: M16 VCCIO (power)
part 132 pins: M22 VCCIO (power)
part 133 pins: N16 VCCIO (power)
part 134 pins: P11 VCCIO (power)
part 135 pins: R5 VCCIO (power)
part 136 pins: R11 VCCIO (power)
part 137 pins: R13 VCCIO (power)
part 138 pins: R16 VCCIO (power)
part 139 pins: R22 VCCIO (power)
part 140 pins: T15 VCCIO (power)
part 141 pins: U3 VCCIO (power)
part 142 pins: U11 VCCIO (power)
part 143 pins: V5 VCCIO (power)
part 144 pins: V17 VCCIO (power)
part 145 pins: V24 VCCIO (power)
part 146 pins: Y2 VCCIO (power)
part 147 pins: Y24 VCCIO (power)
part 148 pins: AA1 NC
part 149 pins: AA2 NC
part 150 pins: AA25 NC
part 151 pins: AB2 NC
part 152 pins: AB25 NC
part 153 pins: AB26 NC
part 154 pins: AC1 NC
part 155 pins: AC2 NC
part 156 pins: AC25 NC
part 157 pins: AC26 NC
part 158 pins: AD2 NC
part 159 pins: AD26 NC
part 160 pins: AE1 NC
part 161 pins: AE3 NC
part 162 pins: AE4 NC
part 163 pins: AE5 NC
part 164 pins: AE6 NC
part 165 pins: AE7 NC
part 166 pins: AE8 NC
part 167 pins: AE9 NC
part 168 pins: AE10 NC
part 169 pins: AE11 NC
part 170 pins: AE12 NC
part 171 pins: AE14 NC
part 172 pins: AE15 NC
part 173 pins: AE16 NC
part 174 pins: AE17 NC
part 175 pins: AE19 NC
part 176 pins: AE20 NC
part 177 pins: AE21 NC
part 178 pins: AE22 NC
part 179 pins: AE23 NC
part 180 pins: AE24 NC
part 181 pins: AE26 NC
part 182 pins: AF3 NC
part 183 pins: AF4 NC
part 184 pins: AF5 NC
part 185 pins: AF6 NC
part 186 pins: AF7 NC
part 187 pins: AF8 NC
part 188 pins: AF9 NC
part 189 pins: AF10 NC
part 190 pins: AF11 NC
part 191 pins: AF12 NC
part 192 pins: AF13 NC
part 193 pins: AF14 NC
part 194 pins: AF15 NC
part 195 pins: AF16 NC
part 196 pins: AF17 NC
part 197 pins: AF18 NC
part 198 pins: AF20 NC
part 199 pins: AF21 NC
part 200 pins: AF23 NC
part 201 pins: AF24 NC
part 202 pins: A3 NC
part 203 pins: A4 NC
part 204 pins: A5 NC
part 205 pins: A6 NC
part 206 pins: A8 NC
part 207 pins: A9 NC
part 208 pins: A10 NC
part 209 pins: A11 NC
part 210 pins: A12 NC
part 211 pins: A13 NC
part 212 pins: A14 NC
part 213 pins: A15 NC
part 214 pins: A16 NC
part 215 pins: A17 NC
part 216 pins: A18 NC
part 217 pins: A19 NC
part 218 pins: A20 NC
part 219 pins: A21 NC
part 220 pins: A22 NC
part 221 pins: A23 NC
part 222 pins: A24 NC
part 223 pins: B3 NC
part 224 pins: B4 NC
part 225 pins: B5 NC
part 226 pins: B6 NC
part 227 pins: B7 NC
part 228 pins: B8 NC
part 229 pins: B9 NC
part 230 pins: B10 NC
part 231 pins: B11 NC
part 232 pins: B12 NC
part 233 pins: B13 NC
part 234 pins: B14 NC
part 235 pins: B16 NC
part 236 pins: B19 NC
part 237 pins: B20 NC
part 238 pins: B21 NC
part 239 pins: B22 NC
part 240 pins: B23 NC
part 241 pins: B24 NC
part 242 pins: B26 NC
part 243 pins: C1 NC
part 244 pins: C25 NC
part 245 pins: C26 NC
part 246 pins: D1 NC
part 247 pins: D2 NC
part 248 pins: D25 NC
part 249 pins: D26 NC
part 250 pins: E1 NC
part 251 pins: E25 NC
part 252 pins: E26 NC
part 253 pins: F1 NC
part 254 pins: F25 NC
part 255 pins: G25 NC
part 256 pins: G26 NC
part 257 pins: H1 NC
part 258 pins: J1 NC
part 259 pins: J25 NC
part 260 pins: J26 NC
part 261 pins: K26 NC
part 262 pins: L2 NC
part 263 pins: L25 NC
part 264 pins: N2 NC
part 265 pins: P1 NC
part 266 pins: P2 NC
part 267 pins: R1 NC
part 268 pins: R26 NC
part 269 pins: T1 NC
part 270 pins: U1 NC
part 271 pins: U25 NC
part 272 pins: V1 NC
part 273 pins: V26 NC
part 274 pins: W1 NC
part 275 pins: Y26 NC

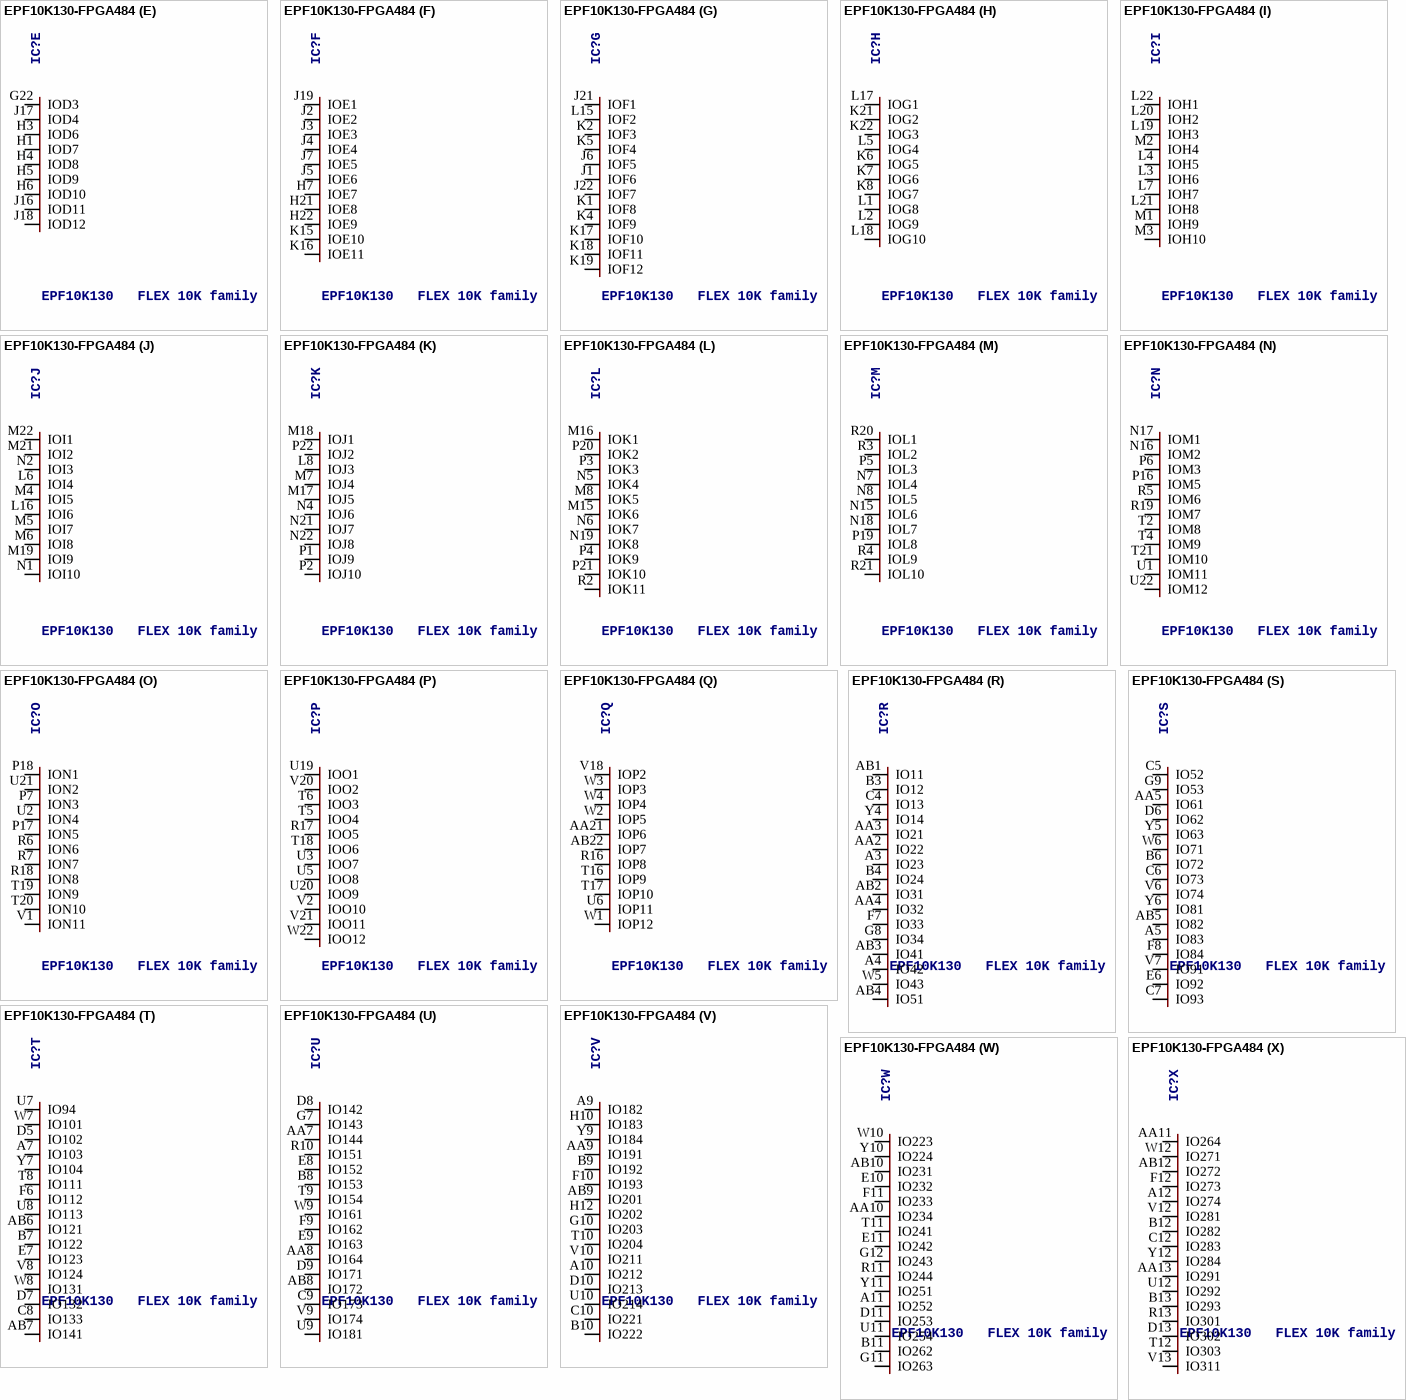
[diagram p25: symbol EPF10K130-FPGA484]

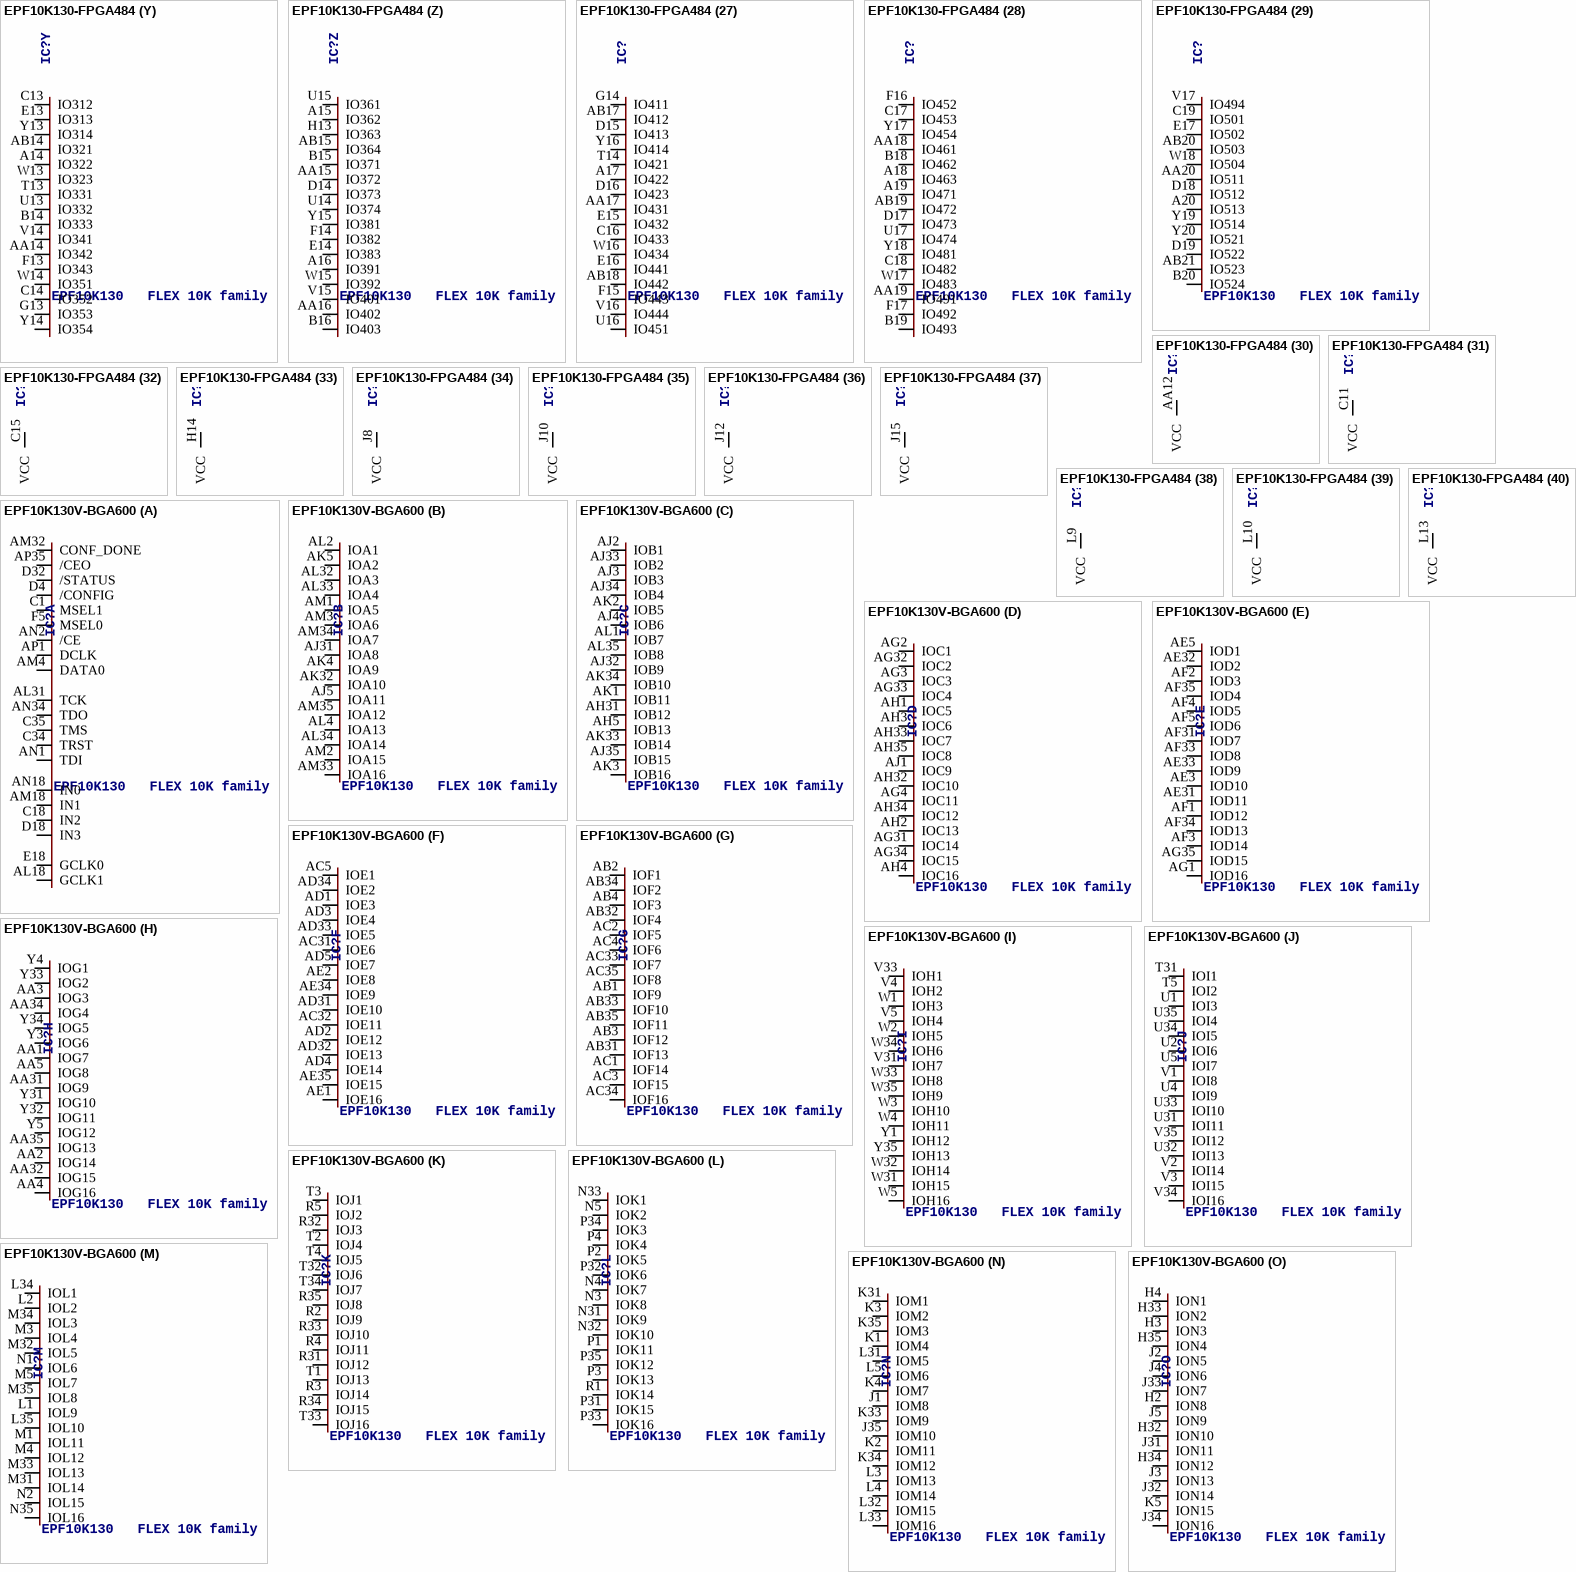
[diagram p26: symbols EPF10K130-FPGA484 to EPF10K130V-BGA600]

## EPF10K130-FPGA484
designator IC?, comment EPF10K130   FLEX 10K family
MPN: EPF10K130EFC484-1; OC_FARNELL: unknown; OC_NEWARK: 51R8855
footprint FBGA484
part A pins: D4 DATA0, D12 GCLK1, E4 /CE, E5 DCLK, E12 IN3, E18 TCK, E19 /CEO, F5 TDI, F18 CONF_DONE, F19 TDO, H11 IN2, P11 GCLK0, R12 IN0, T7 /CONFIG, U4 MSEL0, U18 TMS, V4 MSEL1, V11 IN1, V19 TRST, W19 /STATUS
part B pins: A2 IOA7, A21 IOA1, C1 IOA8, C3 IOA9, C20 IOA4, C22 IOA2, D2 IOA6, D3 IOA10, D20 IOA3, E3 IOA11, E20 IOA12, G18 IOA5
part C pins: D1 IOB7, D21 IOB1, D22 IOB2, E2 IOB6, E22 IOB4, F2 IOB8, F3 IOB9, F4 IOB5, F20 IOB10, G16 IOB3, G17 IOB11, H16 IOB12
part D pins: F1 IOC6, F21 IOC1, F22 IOC7, G2 IOC8, G4 IOC9, G5 IOC5, G6 IOC4, G19 IOC2, G20 IOC10, H17 IOC3, H18 IOC11, H19 IOC12
part E pins: G22 IOD3, H1 IOD7, H3 IOD6, H4 IOD8, H5 IOD9, H6 IOD10, J16 IOD11, J17 IOD4, J18 IOD12
part F pins: H7 IOE7, H21 IOE8, H22 IOE9, J2 IOE2, J3 IOE3, J4 IOE4, J5 IOE6, J7 IOE5, J19 IOE1, K15 IOE10, K16 IOE11
part G pins: J1 IOF6, J6 IOF5, J21 IOF1, J22 IOF7, K1 IOF8, K2 IOF3, K4 IOF9, K5 IOF4, K17 IOF10, K18 IOF11, K19 IOF12, L15 IOF2
part H pins: K6 IOG5, K7 IOG6, K8 IOG7, K21 IOG2, K22 IOG3, L1 IOG8, L2 IOG9, L5 IOG4, L17 IOG1, L18 IOG10
part I pins: L3 IOH6, L4 IOH5, L7 IOH7, L19 IOH3, L20 IOH2, L21 IOH8, L22 IOH1, M1 IOH9, M2 IOH4, M3 IOH10
part J pins: L6 IOI4, L16 IOI6, M4 IOI5, M5 IOI7, M6 IOI8, M19 IOI9, M21 IOI2, M22 IOI1, N1 IOI10, N2 IOI3
part K pins: L8 IOJ3, M7 IOJ4, M17 IOJ5, M18 IOJ1, N4 IOJ6, N21 IOJ7, N22 IOJ8, P1 IOJ9, P2 IOJ10, P22 IOJ2
part L pins: M8 IOK5, M15 IOK6, M16 IOK1, N5 IOK4, N6 IOK7, N19 IOK8, P3 IOK3, P4 IOK9, P20 IOK2, P21 IOK10, R2 IOK11
part M pins: N7 IOL4, N8 IOL5, N15 IOL6, N18 IOL7, P5 IOL3, P19 IOL8, R3 IOL2, R4 IOL9, R20 IOL1, R21 IOL10
part N pins: N16 IOM2, N17 IOM1, P6 IOM3, P16 IOM5, R5 IOM6, R19 IOM7, T2 IOM8, T4 IOM9, T21 IOM10, U1 IOM11, U22 IOM12
part O pins: P7 ION3, P17 ION5, P18 ION1, R6 ION6, R7 ION7, R18 ION8, T19 ION9, T20 ION10, U2 ION4, U21 ION2, V1 ION11
part P pins: R17 IOO5, T5 IOO4, T6 IOO3, T18 IOO6, U3 IOO7, U5 IOO8, U19 IOO1, U20 IOO9, V2 IOO10, V20 IOO2, V21 IOO11, W22 IOO12
part Q pins: AA21 IOP6, AB22 IOP7, R16 IOP8, T16 IOP9, T17 IOP10, U6 IOP11, V18 IOP2, W1 IOP12, W2 IOP5, W3 IOP3, W4 IOP4
part R pins: A3 IO23, A4 IO42, AA2 IO22, AA3 IO21, AA4 IO32, AB1 IO11, AB2 IO31, AB3 IO41, AB4 IO51, B3 IO12, B4 IO24, C4 IO13, F7 IO33, G8 IO34, W5 IO43, Y4 IO14
part S pins: A5 IO83, AA5 IO61, AB5 IO82, B6 IO72, C5 IO52, C6 IO73, C7 IO93, D6 IO62, E6 IO92, F8 IO84, G9 IO53, V6 IO74, V7 IO91, W6 IO71, Y5 IO63, Y6 IO81
part T pins: A7 IO103, AB6 IO121, AB7 IO141, B7 IO122, C8 IO133, D5 IO102, D7 IO132, E7 IO123, F6 IO112, T8 IO111, U7 IO94, U8 IO113, V8 IO124, W7 IO101, W8 IO131, Y7 IO104
part U pins: AA7 IO144, AA8 IO164, AB8 IO172, B8 IO153, C9 IO173, D8 IO142, D9 IO171, E8 IO152, E9 IO163, F9 IO162, G7 IO143, R10 IO151, T9 IO154, U9 IO181, V9 IO174, W9 IO161
part V pins: A9 IO182, A10 IO212, AA9 IO191, AB9 IO201, B9 IO192, B10 IO222, C10 IO221, D10 IO213, F10 IO193, G10 IO203, H10 IO183, H12 IO202, T10 IO204, U10 IO214, V10 IO211, Y9 IO184
part W pins: A11 IO252, AA10 IO234, AB10 IO231, B11 IO262, D11 IO253, E10 IO232, E11 IO242, F11 IO233, G11 IO263, G12 IO243, R11 IO244, T11 IO241, U11 IO254, W10 IO223, Y10 IO224, Y11 IO251
part X pins: A12 IO274, AA11 IO264, AA13 IO291, AB12 IO272, B12 IO282, B13 IO293, C12 IO283, D13 IO302, F12 IO273, R13 IO301, T12 IO303, U12 IO292, V12 IO281, V13 IO311, W12 IO271, Y12 IO284
part Y pins: A14 IO322, AA14 IO342, AB14 IO321, B14 IO333, C13 IO312, C14 IO352, E13 IO313, F13 IO343, G13 IO353, T13 IO331, U13 IO332, V14 IO341, W13 IO323, W14 IO351, Y13 IO314, Y14 IO354
part Z pins: A15 IO362, A16 IO391, AA15 IO372, AA16 IO402, AB15 IO364, B15 IO371, B16 IO403, D14 IO373, E14 IO383, F14 IO382, H13 IO363, U14 IO374, U15 IO361, V15 IO401, W15 IO392, Y15 IO381
part 27 pins: A17 IO422, AA17 IO431, AB17 IO412, AB18 IO442, C16 IO433, D15 IO413, D16 IO423, E15 IO432, E16 IO441, F15 IO443, G14 IO411, T14 IO421, U16 IO451, V16 IO444, W16 IO434, Y16 IO414
part 28 pins: A18 IO463, A19 IO471, AA18 IO461, AA19 IO491, AB19 IO472, B18 IO462, B19 IO493, C17 IO453, C18 IO482, D17 IO473, F16 IO452, F17 IO492, U17 IO474, W17 IO483, Y17 IO454, Y18 IO481
part 29 pins: A20 IO513, AA20 IO511, AB20 IO503, AB21 IO523, B20 IO524, C19 IO501, D18 IO512, D19 IO522, E17 IO502, V17 IO494, W18 IO504, Y19 IO514, Y20 IO521
part 30 pins: AA12 VCC (power)
part 31 pins: C11 VCC (power)
part 32 pins: C15 VCC (power)
part 33 pins: H14 VCC (power)
part 34 pins: J8 VCC (power)
part 35 pins: J10 VCC (power)
part 36 pins: J12 VCC (power)
part 37 pins: J15 VCC (power)
part 38 pins: L9 VCC (power)
part 39 pins: L10 VCC (power)
part 40 pins: L13 VCC (power)
part 41 pins: M10 VCC (power)
part 42 pins: M13 VCC (power)
part 43 pins: M14 VCC (power)
part 44 pins: N12 VCC (power)
part 45 pins: P8 VCC (power)
part 46 pins: P10 VCC (power)
part 47 pins: P12 VCC (power)
part 48 pins: P15 VCC (power)
part 49 pins: R14 VCC (power)
part 50 pins: V5 VCC (power)
part 51 pins: W21 VCC (power)
part 52 pins: Y8 VCC (power)
part 53 pins: AB13 VCCIO (power)
part 54 pins: A6 VCCIO (power)
part 55 pins: A13 VCCIO (power)
part 56 pins: B5 VCCIO (power)
part 57 pins: E1 VCCIO (power)
part 58 pins: G1 VCCIO (power)
part 59 pins: G15 VCCIO (power)
part 60 pins: H9 VCCIO (power)
part 61 pins: H20 VCCIO (power)
part 62 pins: J11 VCCIO (power)
part 63 pins: J13 VCCIO (power)
part 64 pins: K9 VCCIO (power)
part 65 pins: K11 VCCIO (power)
part 66 pins: K14 VCCIO (power)
part 67 pins: K20 VCCIO (power)
part 68 pins: L14 VCCIO (power)
part 69 pins: M9 VCCIO (power)
part 70 pins: N3 VCCIO (power)
part 71 pins: N9 VCCIO (power)
part 72 pins: N11 VCCIO (power)
part 73 pins: N14 VCCIO (power)
part 74 pins: N20 VCCIO (power)
part 75 pins: P13 VCCIO (power)
part 76 pins: R1 VCCIO (power)
part 77 pins: R9 VCCIO (power)
part 78 pins: T3 VCCIO (power)
part 79 pins: T15 VCCIO (power)
part 80 pins: T22 VCCIO (power)
part 81 pins: V22 VCCIO (power)
part 82 pins: AA1 GND (power)
part 83 pins: AA6 GND (power)
part 84 pins: AA22 GND (power)
part 85 pins: AB11 GND (power)
part 86 pins: AB16 GND (power)
part 87 pins: A1 GND (power)
part 88 pins: A8 GND (power)
part 89 pins: A22 GND (power)
part 90 pins: B1 GND (power)
part 91 pins: B2 GND (power)
part 92 pins: B17 GND (power)
part 93 pins: B21 GND (power)
part 94 pins: B22 GND (power)
part 95 pins: C2 GND (power)
part 96 pins: C21 GND (power)
part 97 pins: E21 GND (power)
part 98 pins: G3 GND (power)
part 99 pins: G21 GND (power)
part 100 pins: H2 GND (power)
part 101 pins: H8 GND (power)
part 102 pins: H15 GND (power)
part 103 pins: J9 GND (power)
part 104 pins: J14 GND (power)
part 105 pins: J20 GND (power)
part 106 pins: K3 GND (power)
part 107 pins: K10 GND (power)
part 108 pins: K12 GND (power)
part 109 pins: K13 GND (power)
part 110 pins: L11 GND (power)
part 111 pins: L12 GND (power)
part 112 pins: M11 GND (power)
part 113 pins: M12 GND (power)
part 114 pins: M20 GND (power)
part 115 pins: N10 GND (power)
part 116 pins: N13 GND (power)
part 117 pins: P9 GND (power)
part 118 pins: P14 GND (power)
part 119 pins: R8 GND (power)
part 120 pins: R15 GND (power)
part 121 pins: R22 GND (power)
part 122 pins: T1 GND (power)
part 123 pins: W11 GND (power)
part 124 pins: W20 GND (power)
part 125 pins: Y1 GND (power)
part 126 pins: Y2 GND (power)
part 127 pins: Y3 GND (power)
part 128 pins: Y21 GND (power)
part 129 pins: Y22 GND (power)
part 130 pins: V3 GND (power)

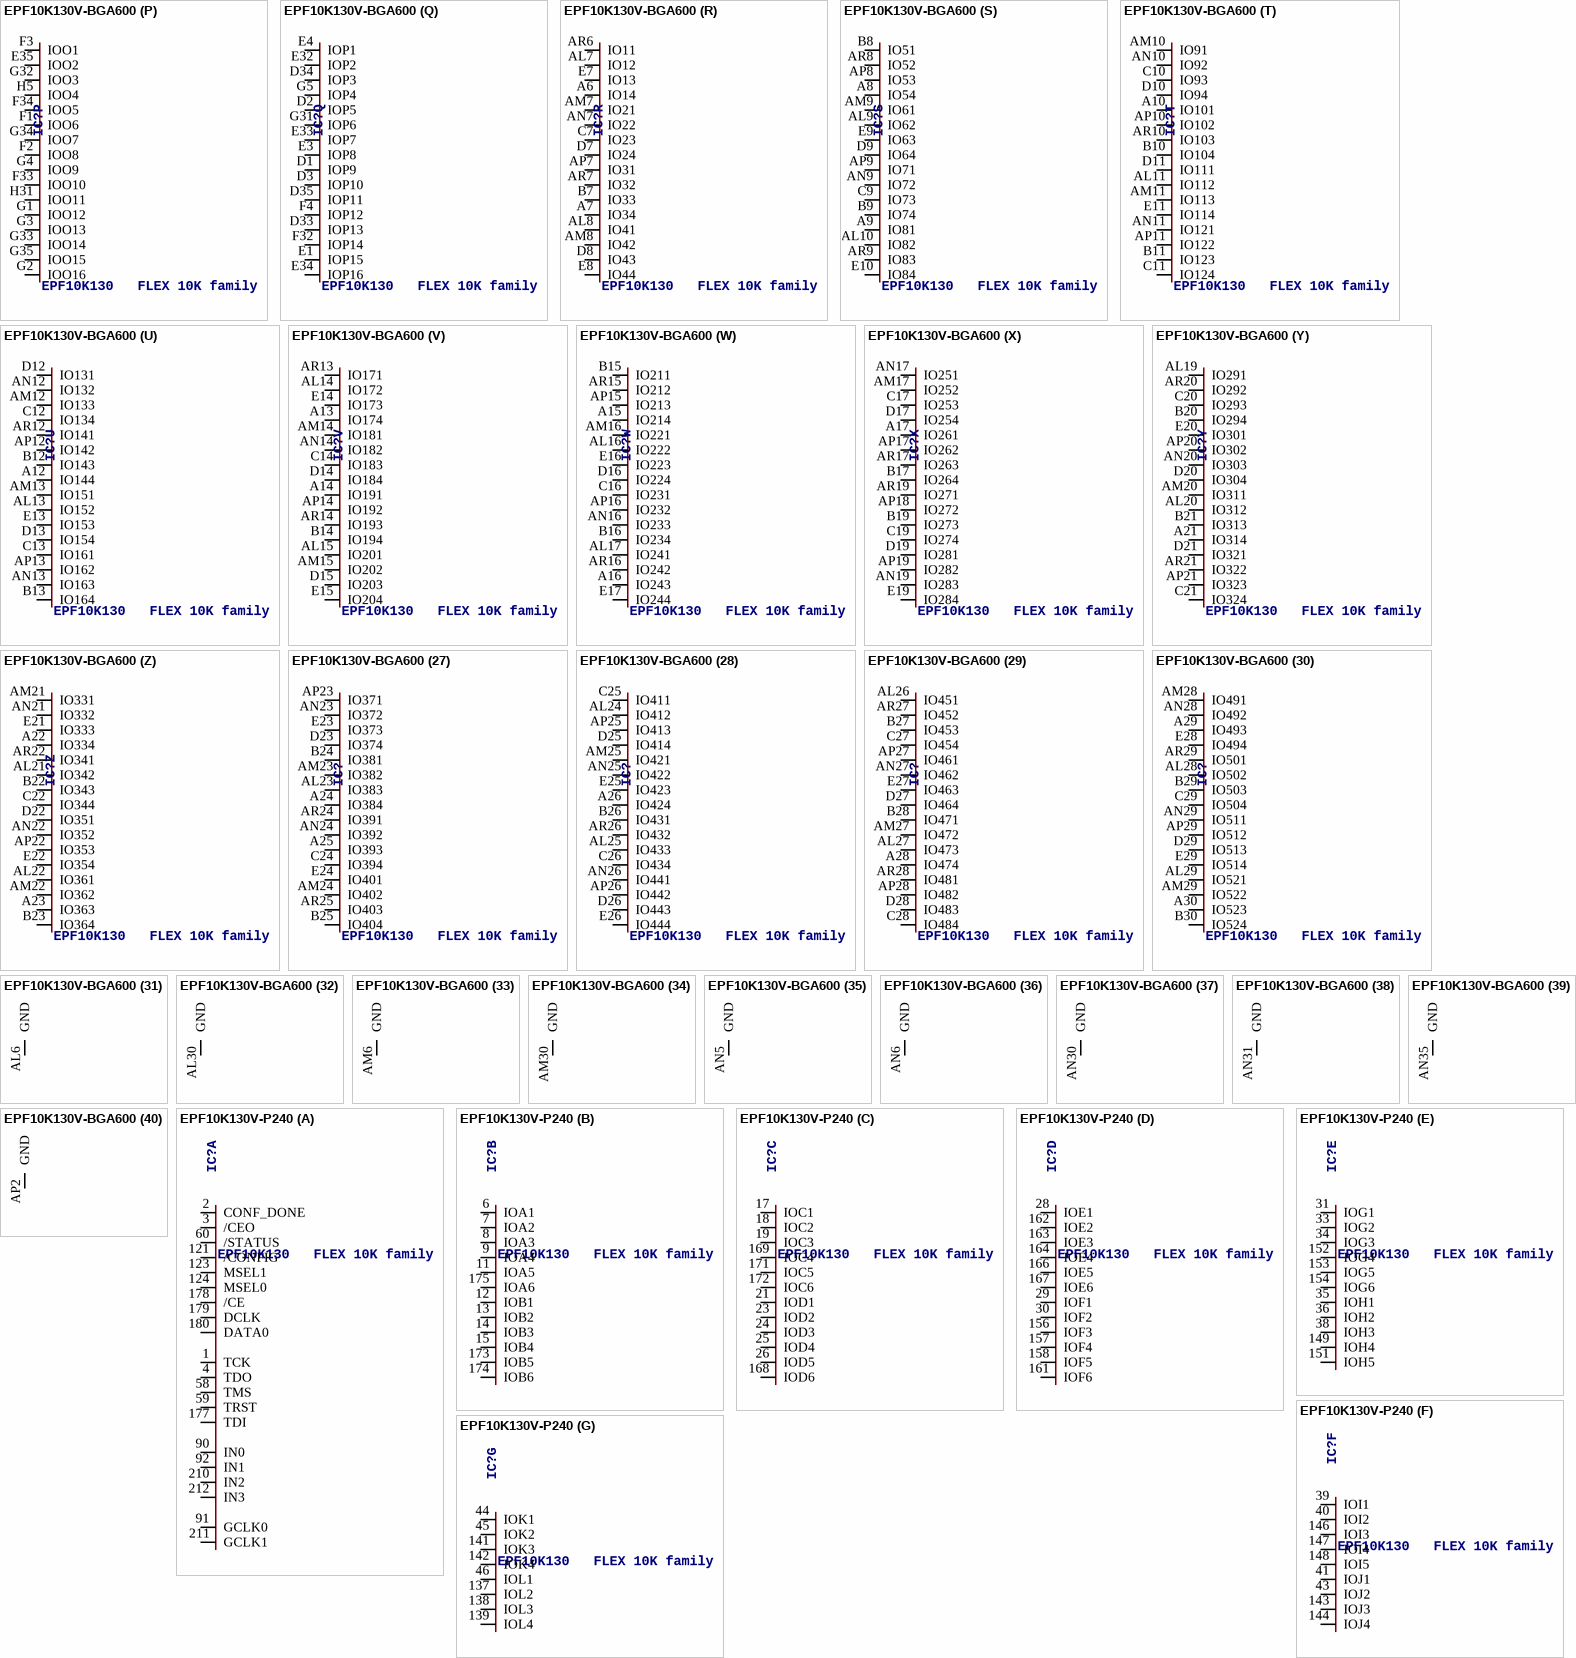
[diagram p27: symbols EPF10K130V-BGA600 to EPF10K130V-P240]